# Altium integrated library Altera FLEX 6000.IntLib: 56 symbols (part 3 of 5)
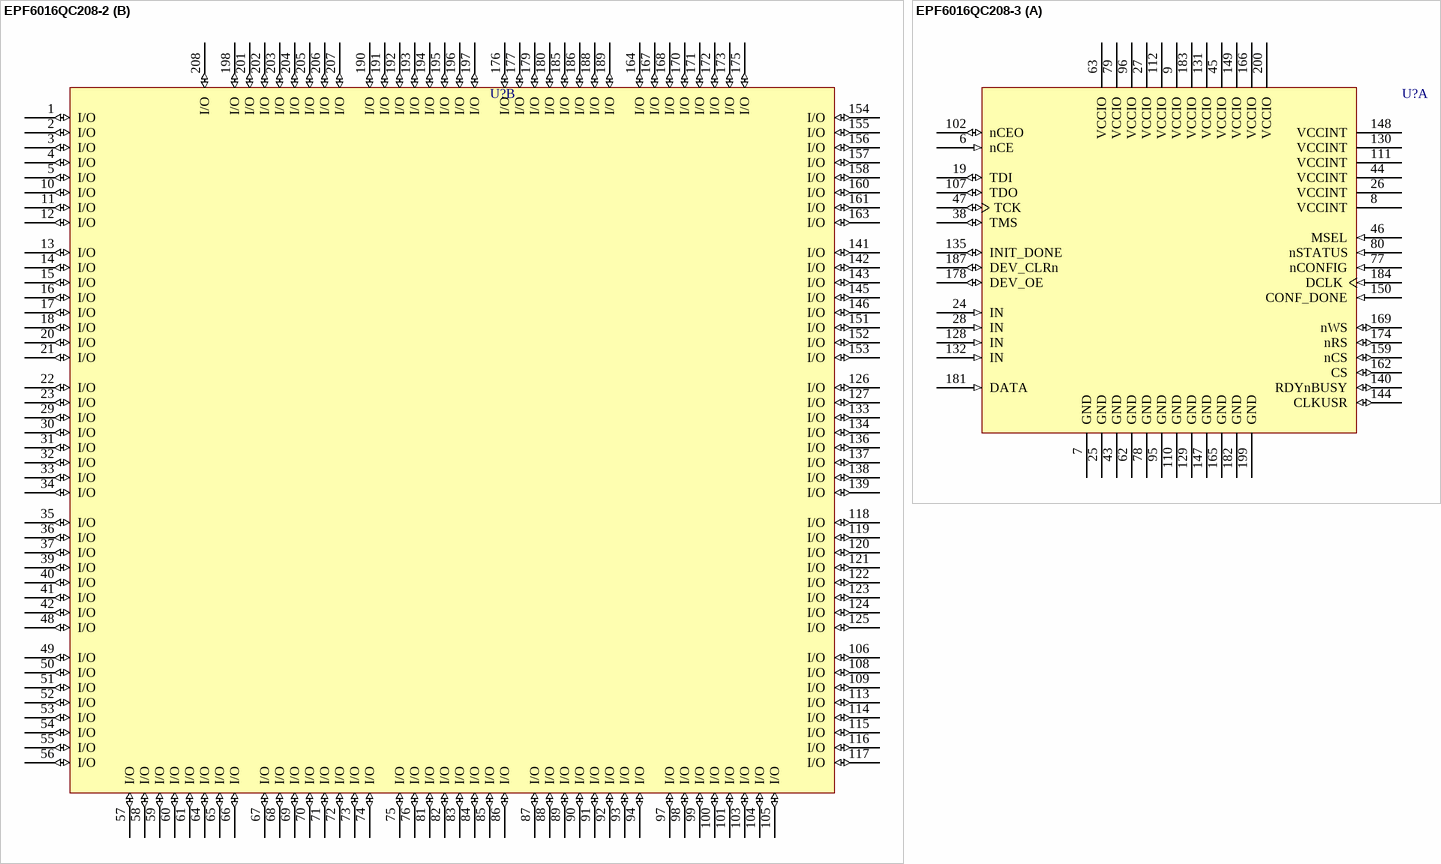
[diagram p42: symbols EPF6016QC208-2 to EPF6016QC208-3]

## EPF6016QC208-2
designator U?
FLEX EPF6016 5.0V PLD, 171 User IO Pins, 208-Pin PQFP, Speed Grade 2, Commercial Grade; Published: 24-Nov-2000; LatestRevisionDate: 13-Apr-2006; LatestRevisionNote: IPC-7351 Footprint Added.; DatasheetVersion: ver4.1, Mar-2001; PackageVersion: ver14.1, Oct-2005; PackageReference: PQFP208; Publisher: Altium Limited; PackageDescription: 208-Pin Plastic Quad Flat Pack (PQFP208); Code_JEDEC: MS-029-FA-1; ComponentLink1Description: Manufacturer Link; ComponentLink1URL: http://www.altera.com/products/devices/flex6k/f6k-index.html; ComponentLink2Description: Datasheet; ComponentLink2URL: http://www.altera.com/literature/ds/dsf6k.pdf
footprint PQFP208_N (Shrink QFP, 208-Leads, Body 28x28mm, Pitch 0.5mm, IPC Medium Density)
footprint PQFP208_L (Shrink QFP, 208-Leads, Body 28x28mm, Pitch 0.5mm, IPC High Density)
footprint PQFP208_M (Shrink QFP, 208-Leads, Body 28x28mm, Pitch 0.5mm, IPC Low Density)
3D model EPF6016-PQFP208 (208-Pin Plastic Quad Flat Pack (PQFP208))
part A pins: 6 nCE (in), 7 GND (power), 8 VCCINT (power), 9 VCCIO (power), 19 TDI (io), 24 IN (in), 25 GND (power), 26 VCCINT (power), 27 VCCIO (power), 28 IN (in), 38 TMS (io), 43 GND (power), 44 VCCINT (power), 45 VCCIO (power), 46 MSEL (in), 47 TCK (io), 62 GND (power), 63 VCCIO (power), 77 nCONFIG (in), 78 GND (power), 79 VCCIO (power), 80 nSTATUS (in), 95 GND (power), 96 VCCIO (power), 102 nCEO (io), 107 TDO (io), 110 GND (power), 111 VCCINT (power), 112 VCCIO (power), 128 IN (in), 129 GND (power), 130 VCCINT (power), 131 VCCIO (power), 132 IN (in), 135 INIT_DONE (io), 140 RDYnBUSY (io), 144 CLKUSR (io), 147 GND (power), 148 VCCINT (power), 149 VCCIO (power), 150 CONF_DONE (in), 159 nCS (io), 162 CS (io), 165 GND (power), 166 VCCIO (power), 169 nWS (io), 174 nRS (io), 178 DEV_OE (io), 181 DATA (in), 182 GND (power), 183 VCCIO (power), 184 DCLK (in), 187 DEV_CLRn (io), 199 GND (power), 200 VCCIO (power)
part B pins: 1 I/O (io), 2 I/O (io), 3 I/O (io), 4 I/O (io), 5 I/O (io), 10 I/O (io), 11 I/O (io), 12 I/O (io), 13 I/O (io), 14 I/O (io), 15 I/O (io), 16 I/O (io), 17 I/O (io), 18 I/O (io), 20 I/O (io), 21 I/O (io), 22 I/O (io), 23 I/O (io), 29 I/O (io), 30 I/O (io), 31 I/O (io), 32 I/O (io), 33 I/O (io), 34 I/O (io), 35 I/O (io), 36 I/O (io), 37 I/O (io), 39 I/O (io), 40 I/O (io), 41 I/O (io), 42 I/O (io), 48 I/O (io), 49 I/O (io), 50 I/O (io), 51 I/O (io), 52 I/O (io), 53 I/O (io), 54 I/O (io), 55 I/O (io), 56 I/O (io), 57 I/O (io), 58 I/O (io), 59 I/O (io), 60 I/O (io), 61 I/O (io), 64 I/O (io), 65 I/O (io), 66 I/O (io), 67 I/O (io), 68 I/O (io), 69 I/O (io), 70 I/O (io), 71 I/O (io), 72 I/O (io), 73 I/O (io), 74 I/O (io), 75 I/O (io), 76 I/O (io), 81 I/O (io), 82 I/O (io), 83 I/O (io), 84 I/O (io), 85 I/O (io), 86 I/O (io), 87 I/O (io), 88 I/O (io), 89 I/O (io), 90 I/O (io), 91 I/O (io), 92 I/O (io), 93 I/O (io), 94 I/O (io), 97 I/O (io), 98 I/O (io), 99 I/O (io), 100 I/O (io), 101 I/O (io), 103 I/O (io), 104 I/O (io), 105 I/O (io), 106 I/O (io), 108 I/O (io), 109 I/O (io), 113 I/O (io), 114 I/O (io), 115 I/O (io), 116 I/O (io), 117 I/O (io), 118 I/O (io), 119 I/O (io), 120 I/O (io), 121 I/O (io), 122 I/O (io), 123 I/O (io), 124 I/O (io), 125 I/O (io), 126 I/O (io), 127 I/O (io), 133 I/O (io), 134 I/O (io), 136 I/O (io), 137 I/O (io), 138 I/O (io), 139 I/O (io), 141 I/O (io), 142 I/O (io), 143 I/O (io), 145 I/O (io), 146 I/O (io), 151 I/O (io), 152 I/O (io), 153 I/O (io), 154 I/O (io), 155 I/O (io), 156 I/O (io), 157 I/O (io), 158 I/O (io), 160 I/O (io), 161 I/O (io), 163 I/O (io), 164 I/O (io), 167 I/O (io), 168 I/O (io), 170 I/O (io), 171 I/O (io), 172 I/O (io), 173 I/O (io), 175 I/O (io), 176 I/O (io), 177 I/O (io), 179 I/O (io), 180 I/O (io), 185 I/O (io), 186 I/O (io), 188 I/O (io), 189 I/O (io), 190 I/O (io), 191 I/O (io), 192 I/O (io), 193 I/O (io), 194 I/O (io), 195 I/O (io), 196 I/O (io), 197 I/O (io), 198 I/O (io), 201 I/O (io), 202 I/O (io), 203 I/O (io), 204 I/O (io), 205 I/O (io), 206 I/O (io), 207 I/O (io), 208 I/O (io)

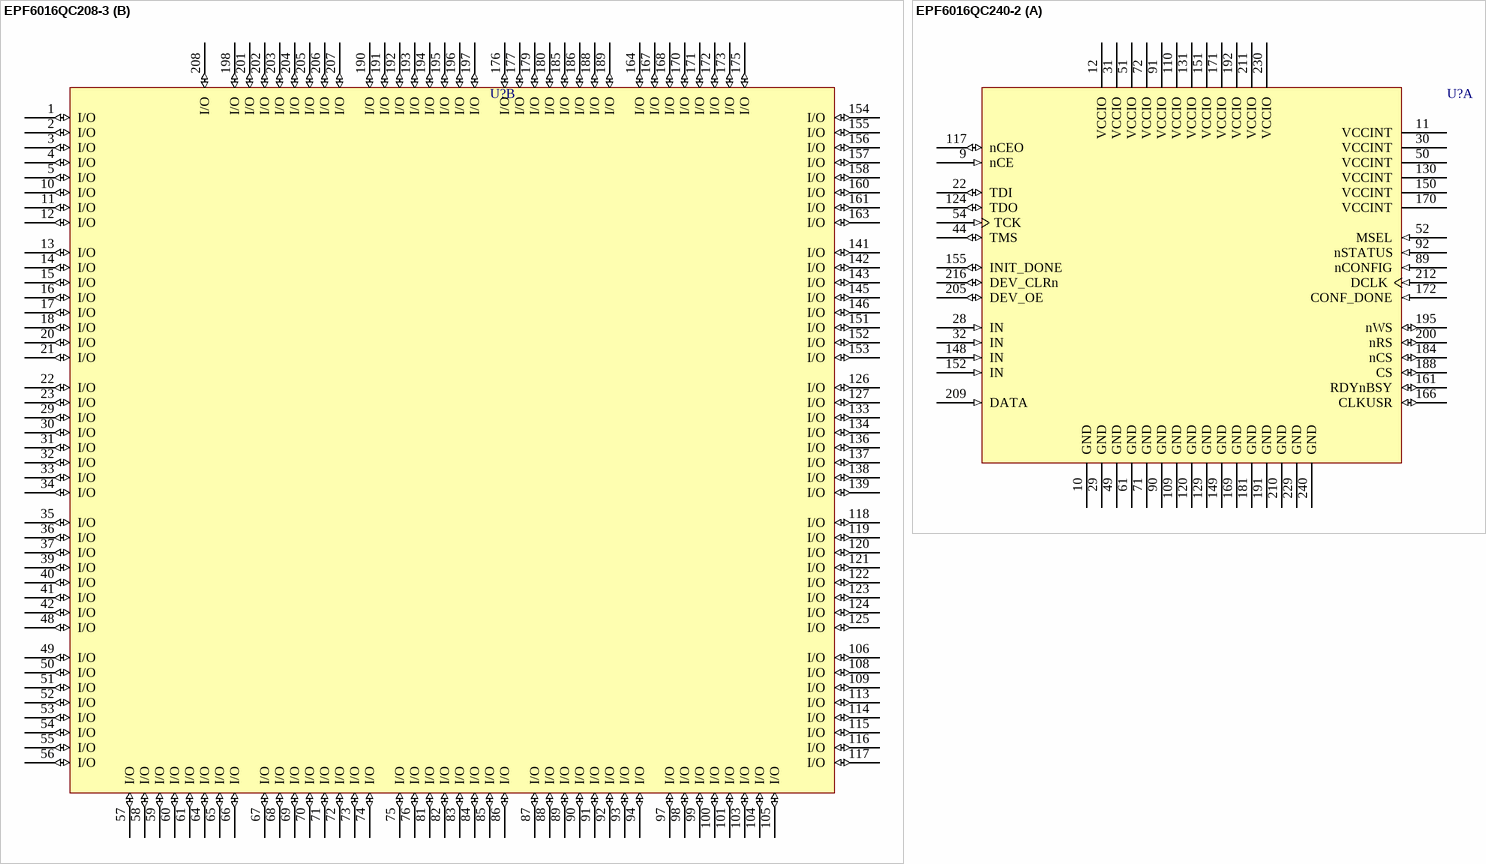
[diagram p19: symbols EPF6016QC208-3 to EPF6016QC240-2]

## EPF6016QC208-3
designator U?
FLEX EPF6016 5.0V PLD, 171 User IO Pins, 208-Pin PQFP, Speed Grade 3, Commercial Grade; Published: 24-Nov-2000; LatestRevisionDate: 13-Apr-2006; LatestRevisionNote: IPC-7351 Footprint Added.; DatasheetVersion: ver4.1, Mar-2001; PackageVersion: ver14.1, Oct-2005; PackageReference: PQFP208; Publisher: Altium Limited; PackageDescription: 208-Pin Plastic Quad Flat Pack (PQFP208); Code_JEDEC: MS-029-FA-1; ComponentLink1Description: Manufacturer Link; ComponentLink1URL: http://www.altera.com/products/devices/flex6k/f6k-index.html; ComponentLink2Description: Datasheet; ComponentLink2URL: http://www.altera.com/literature/ds/dsf6k.pdf
footprint PQFP208_N (Shrink QFP, 208-Leads, Body 28x28mm, Pitch 0.5mm, IPC Medium Density)
footprint PQFP208_L (Shrink QFP, 208-Leads, Body 28x28mm, Pitch 0.5mm, IPC High Density)
footprint PQFP208_M (Shrink QFP, 208-Leads, Body 28x28mm, Pitch 0.5mm, IPC Low Density)
3D model EPF6016-PQFP208 (208-Pin Plastic Quad Flat Pack (PQFP208))
part A pins: 6 nCE (in), 7 GND (power), 8 VCCINT (power), 9 VCCIO (power), 19 TDI (io), 24 IN (in), 25 GND (power), 26 VCCINT (power), 27 VCCIO (power), 28 IN (in), 38 TMS (io), 43 GND (power), 44 VCCINT (power), 45 VCCIO (power), 46 MSEL (in), 47 TCK (io), 62 GND (power), 63 VCCIO (power), 77 nCONFIG (in), 78 GND (power), 79 VCCIO (power), 80 nSTATUS (in), 95 GND (power), 96 VCCIO (power), 102 nCEO (io), 107 TDO (io), 110 GND (power), 111 VCCINT (power), 112 VCCIO (power), 128 IN (in), 129 GND (power), 130 VCCINT (power), 131 VCCIO (power), 132 IN (in), 135 INIT_DONE (io), 140 RDYnBUSY (io), 144 CLKUSR (io), 147 GND (power), 148 VCCINT (power), 149 VCCIO (power), 150 CONF_DONE (in), 159 nCS (io), 162 CS (io), 165 GND (power), 166 VCCIO (power), 169 nWS (io), 174 nRS (io), 178 DEV_OE (io), 181 DATA (in), 182 GND (power), 183 VCCIO (power), 184 DCLK (in), 187 DEV_CLRn (io), 199 GND (power), 200 VCCIO (power)
part B pins: 1 I/O (io), 2 I/O (io), 3 I/O (io), 4 I/O (io), 5 I/O (io), 10 I/O (io), 11 I/O (io), 12 I/O (io), 13 I/O (io), 14 I/O (io), 15 I/O (io), 16 I/O (io), 17 I/O (io), 18 I/O (io), 20 I/O (io), 21 I/O (io), 22 I/O (io), 23 I/O (io), 29 I/O (io), 30 I/O (io), 31 I/O (io), 32 I/O (io), 33 I/O (io), 34 I/O (io), 35 I/O (io), 36 I/O (io), 37 I/O (io), 39 I/O (io), 40 I/O (io), 41 I/O (io), 42 I/O (io), 48 I/O (io), 49 I/O (io), 50 I/O (io), 51 I/O (io), 52 I/O (io), 53 I/O (io), 54 I/O (io), 55 I/O (io), 56 I/O (io), 57 I/O (io), 58 I/O (io), 59 I/O (io), 60 I/O (io), 61 I/O (io), 64 I/O (io), 65 I/O (io), 66 I/O (io), 67 I/O (io), 68 I/O (io), 69 I/O (io), 70 I/O (io), 71 I/O (io), 72 I/O (io), 73 I/O (io), 74 I/O (io), 75 I/O (io), 76 I/O (io), 81 I/O (io), 82 I/O (io), 83 I/O (io), 84 I/O (io), 85 I/O (io), 86 I/O (io), 87 I/O (io), 88 I/O (io), 89 I/O (io), 90 I/O (io), 91 I/O (io), 92 I/O (io), 93 I/O (io), 94 I/O (io), 97 I/O (io), 98 I/O (io), 99 I/O (io), 100 I/O (io), 101 I/O (io), 103 I/O (io), 104 I/O (io), 105 I/O (io), 106 I/O (io), 108 I/O (io), 109 I/O (io), 113 I/O (io), 114 I/O (io), 115 I/O (io), 116 I/O (io), 117 I/O (io), 118 I/O (io), 119 I/O (io), 120 I/O (io), 121 I/O (io), 122 I/O (io), 123 I/O (io), 124 I/O (io), 125 I/O (io), 126 I/O (io), 127 I/O (io), 133 I/O (io), 134 I/O (io), 136 I/O (io), 137 I/O (io), 138 I/O (io), 139 I/O (io), 141 I/O (io), 142 I/O (io), 143 I/O (io), 145 I/O (io), 146 I/O (io), 151 I/O (io), 152 I/O (io), 153 I/O (io), 154 I/O (io), 155 I/O (io), 156 I/O (io), 157 I/O (io), 158 I/O (io), 160 I/O (io), 161 I/O (io), 163 I/O (io), 164 I/O (io), 167 I/O (io), 168 I/O (io), 170 I/O (io), 171 I/O (io), 172 I/O (io), 173 I/O (io), 175 I/O (io), 176 I/O (io), 177 I/O (io), 179 I/O (io), 180 I/O (io), 185 I/O (io), 186 I/O (io), 188 I/O (io), 189 I/O (io), 190 I/O (io), 191 I/O (io), 192 I/O (io), 193 I/O (io), 194 I/O (io), 195 I/O (io), 196 I/O (io), 197 I/O (io), 198 I/O (io), 201 I/O (io), 202 I/O (io), 203 I/O (io), 204 I/O (io), 205 I/O (io), 206 I/O (io), 207 I/O (io), 208 I/O (io)

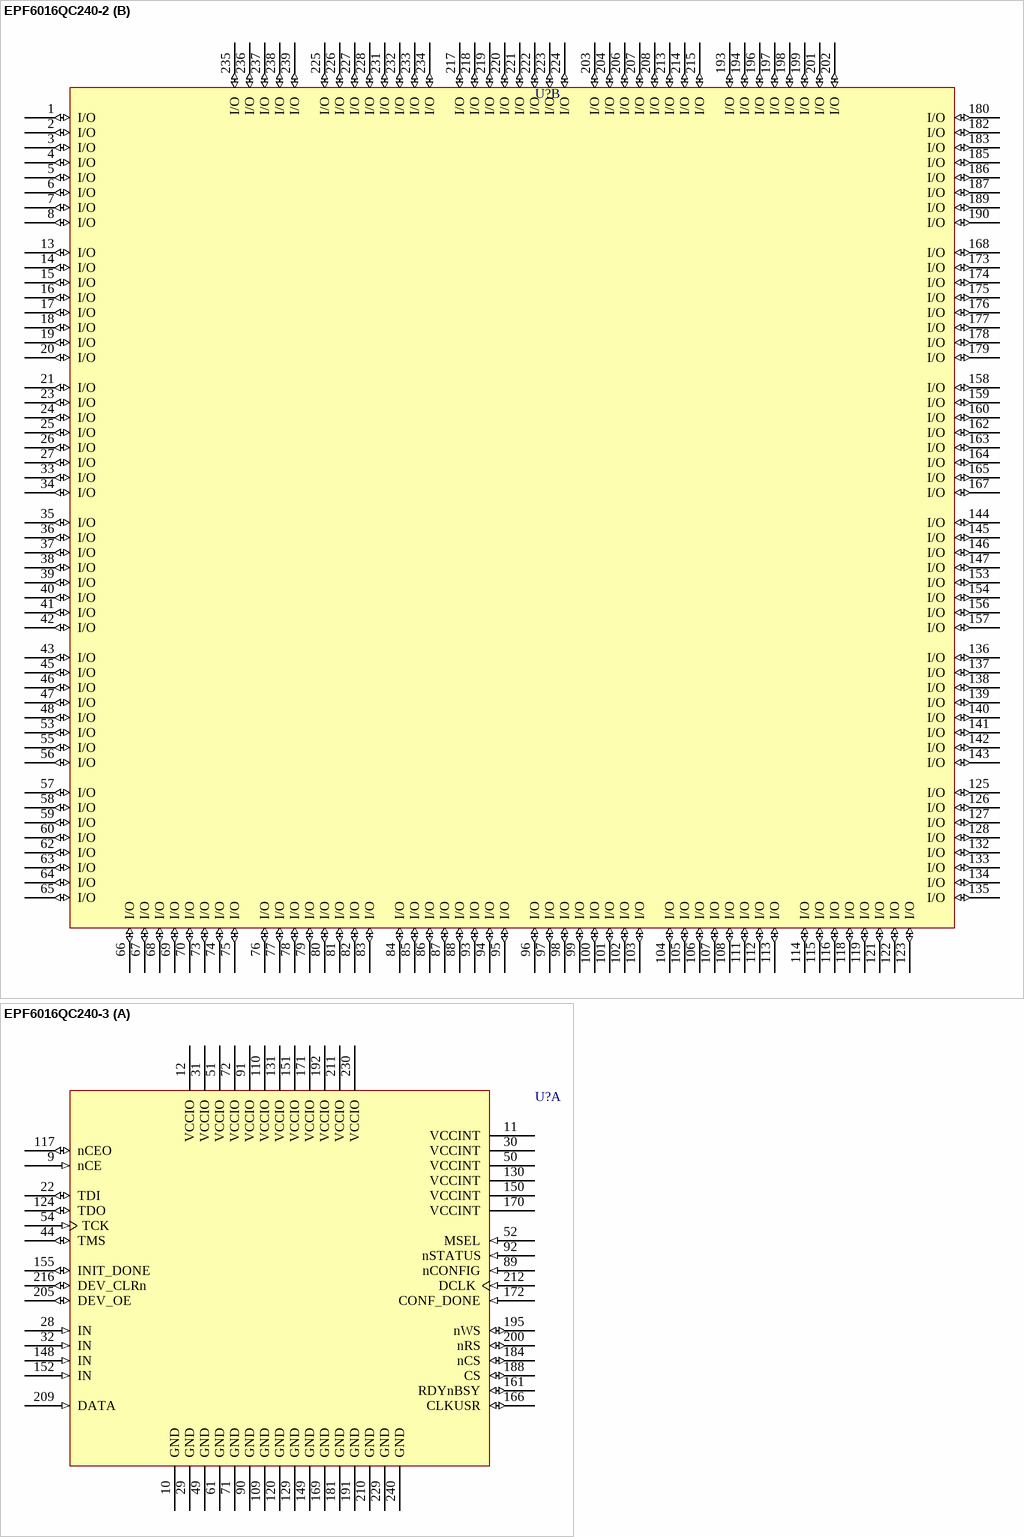
[diagram p20: symbols EPF6016QC240-2 to EPF6016QC240-3]

## EPF6016QC240-2
designator U?
FLEX EPF6016 5.0V PLD, 199 User IO Pins, 240-Pin PQFP, Speed Grade 2, Commercial Grade; Published: 24-Nov-2000; LatestRevisionDate: 13-Apr-2006; LatestRevisionNote: IPC-7351 Footprint Added.; DatasheetVersion: ver4.1, Mar-2001; PackageVersion: ver14.1, Oct-2005; PackageReference: PQFP240; Publisher: Altium Limited; PackageDescription: 240-Pin Plastic Quad Flat Pack (PQFP240); Code_JEDEC: MS-029-GA; ComponentLink1Description: Manufacturer Link; ComponentLink1URL: http://www.altera.com/products/devices/flex6k/f6k-index.html; ComponentLink2Description: Datasheet; ComponentLink2URL: http://www.altera.com/literature/ds/dsf6k.pdf
footprint PQFP240_N (Shrink QFP, 240-Leads, Body 32x32mm, Pitch 0.5mm, IPC Medium Density)
footprint PQFP240_L (Shrink QFP, 240-Leads, Body 32x32mm, Pitch 0.5mm, IPC High Density)
footprint PQFP240_M (Shrink QFP, 240-Leads, Body 32x32mm, Pitch 0.5mm, IPC Low Density)
3D model EPF6016-PQFP240 (240-Pin Plastic Quad Flat Pack (PQFP240))
part A pins: 9 nCE (in), 10 GND (power), 11 VCCINT (power), 12 VCCIO (power), 22 TDI (io), 28 IN (in), 29 GND (power), 30 VCCINT (power), 31 VCCIO (power), 32 IN (in), 44 TMS (io), 49 GND (power), 50 VCCINT (power), 51 VCCIO (power), 52 MSEL (in), 54 TCK (in), 61 GND (power), 71 GND (power), 72 VCCIO (power), 89 nCONFIG (in), 90 GND (power), 91 VCCIO (power), 92 nSTATUS (in), 109 GND (power), 110 VCCIO (power), 117 nCEO (io), 120 GND (power), 124 TDO (io), 129 GND (power), 130 VCCINT (power), 131 VCCIO (power), 148 IN (in), 149 GND (power), 150 VCCINT (power), 151 VCCIO (power), 152 IN (in), 155 INIT_DONE (io), 161 RDYnBSY (io), 166 CLKUSR (io), 169 GND (power), 170 VCCINT (power), 171 VCCIO (power), 172 CONF_DONE (in), 181 GND (power), 184 nCS (io), 188 CS (io), 191 GND (power), 192 VCCIO (power), 195 nWS (io), 200 nRS (io), 205 DEV_OE (io), 209 DATA (in), 210 GND (power), 211 VCCIO (power), 212 DCLK (in), 216 DEV_CLRn (io), 229 GND (power), 230 VCCIO (power), 240 GND (power)
part B pins: 1 I/O (io), 2 I/O (io), 3 I/O (io), 4 I/O (io), 5 I/O (io), 6 I/O (io), 7 I/O (io), 8 I/O (io), 13 I/O (io), 14 I/O (io), 15 I/O (io), 16 I/O (io), 17 I/O (io), 18 I/O (io), 19 I/O (io), 20 I/O (io), 21 I/O (io), 23 I/O (io), 24 I/O (io), 25 I/O (io), 26 I/O (io), 27 I/O (io), 33 I/O (io), 34 I/O (io), 35 I/O (io), 36 I/O (io), 37 I/O (io), 38 I/O (io), 39 I/O (io), 40 I/O (io), 41 I/O (io), 42 I/O (io), 43 I/O (io), 45 I/O (io), 46 I/O (io), 47 I/O (io), 48 I/O (io), 53 I/O (io), 55 I/O (io), 56 I/O (io), 57 I/O (io), 58 I/O (io), 59 I/O (io), 60 I/O (io), 62 I/O (io), 63 I/O (io), 64 I/O (io), 65 I/O (io), 66 I/O (io), 67 I/O (io), 68 I/O (io), 69 I/O (io), 70 I/O (io), 73 I/O (io), 74 I/O (io), 75 I/O (io), 76 I/O (io), 77 I/O (io), 78 I/O (io), 79 I/O (io), 80 I/O (io), 81 I/O (io), 82 I/O (io), 83 I/O (io), 84 I/O (io), 85 I/O (io), 86 I/O (io), 87 I/O (io), 88 I/O (io), 93 I/O (io), 94 I/O (io), 95 I/O (io), 96 I/O (io), 97 I/O (io), 98 I/O (io), 99 I/O (io), 100 I/O (io), 101 I/O (io), 102 I/O (io), 103 I/O (io), 104 I/O (io), 105 I/O (io), 106 I/O (io), 107 I/O (io), 108 I/O (io), 111 I/O (io), 112 I/O (io), 113 I/O (io), 114 I/O (io), 115 I/O (io), 116 I/O (io), 118 I/O (io), 119 I/O (io), 121 I/O (io), 122 I/O (io), 123 I/O (io), 125 I/O (io), 126 I/O (io), 127 I/O (io), 128 I/O (io), 132 I/O (io), 133 I/O (io), 134 I/O (io), 135 I/O (io), 136 I/O (io), 137 I/O (io), 138 I/O (io), 139 I/O (io), 140 I/O (io), 141 I/O (io), 142 I/O (io), 143 I/O (io), 144 I/O (io), 145 I/O (io), 146 I/O (io), 147 I/O (io), 153 I/O (io), 154 I/O (io), 156 I/O (io), 157 I/O (io), 158 I/O (io), 159 I/O (io), 160 I/O (io), 162 I/O (io), 163 I/O (io), 164 I/O (io), 165 I/O (io), 167 I/O (io), 168 I/O (io), 173 I/O (io), 174 I/O (io), 175 I/O (io), 176 I/O (io), 177 I/O (io), 178 I/O (io), 179 I/O (io), 180 I/O (io), 182 I/O (io), 183 I/O (io), 185 I/O (io), 186 I/O (io), 187 I/O (io), 189 I/O (io), 190 I/O (io), 193 I/O (io), 194 I/O (io), 196 I/O (io), 197 I/O (io), 198 I/O (io), 199 I/O (io), 201 I/O (io), 202 I/O (io), 203 I/O (io), 204 I/O (io), 206 I/O (io), 207 I/O (io), 208 I/O (io), 213 I/O (io), 214 I/O (io), 215 I/O (io), 217 I/O (io), 218 I/O (io), 219 I/O (io), 220 I/O (io), 221 I/O (io), 222 I/O (io), 223 I/O (io), 224 I/O (io), 225 I/O (io), 226 I/O (io), 227 I/O (io), 228 I/O (io), 231 I/O (io), 232 I/O (io), 233 I/O (io), 234 I/O (io), 235 I/O (io), 236 I/O (io), 237 I/O (io), 238 I/O (io), 239 I/O (io)

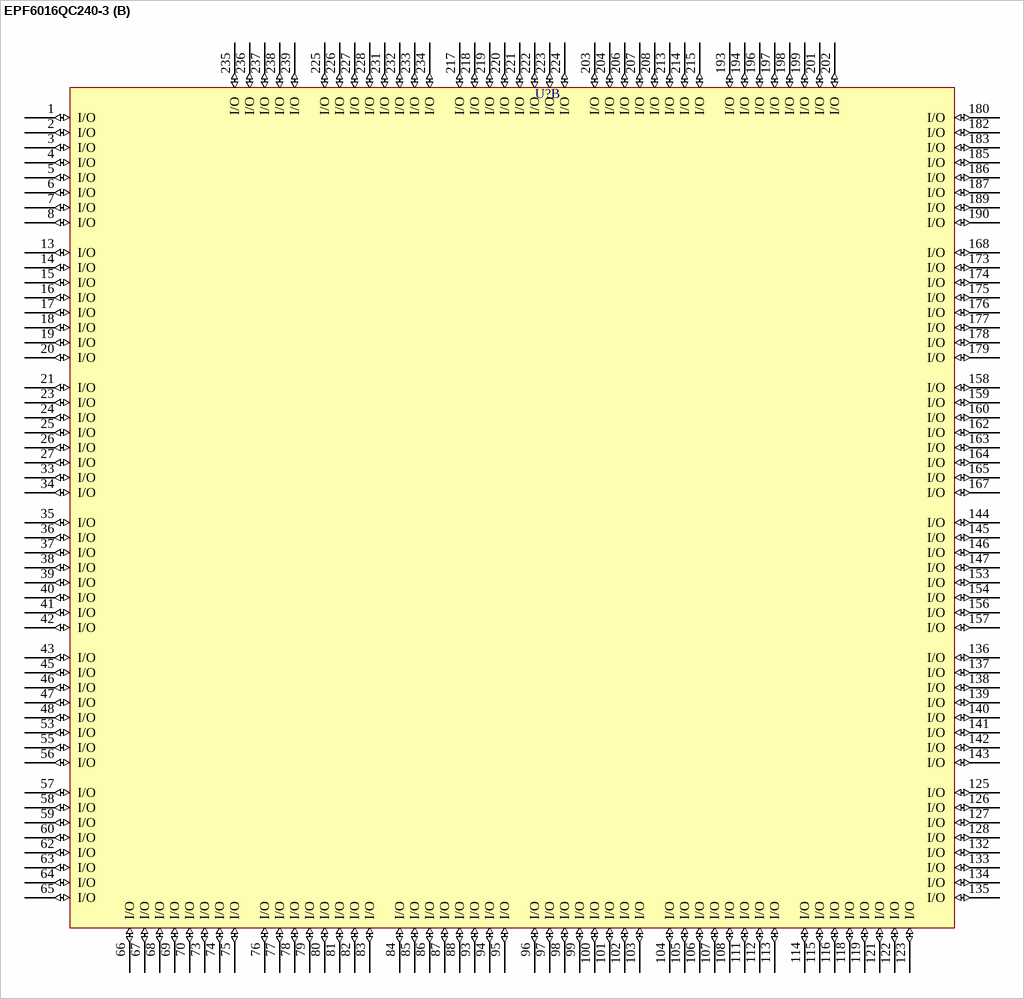
[diagram p21: symbol EPF6016QC240-3]

## EPF6016QC240-3
designator U?
FLEX EPF6016 5.0V PLD, 199 User IO Pins, 240-Pin PQFP, Speed Grade 3, Commercial Grade; Published: 24-Nov-2000; LatestRevisionDate: 13-Apr-2006; LatestRevisionNote: IPC-7351 Footprint Added.; DatasheetVersion: ver4.1, Mar-2001; PackageVersion: ver14.1, Oct-2005; PackageReference: PQFP240; Publisher: Altium Limited; PackageDescription: 240-Pin Plastic Quad Flat Pack (PQFP240); Code_JEDEC: MS-029-GA; ComponentLink1Description: Manufacturer Link; ComponentLink1URL: http://www.altera.com/products/devices/flex6k/f6k-index.html; ComponentLink2Description: Datasheet; ComponentLink2URL: http://www.altera.com/literature/ds/dsf6k.pdf
footprint PQFP240_N (Shrink QFP, 240-Leads, Body 32x32mm, Pitch 0.5mm, IPC Medium Density)
footprint PQFP240_L (Shrink QFP, 240-Leads, Body 32x32mm, Pitch 0.5mm, IPC High Density)
footprint PQFP240_M (Shrink QFP, 240-Leads, Body 32x32mm, Pitch 0.5mm, IPC Low Density)
3D model EPF6016-PQFP240 (240-Pin Plastic Quad Flat Pack (PQFP240))
part A pins: 9 nCE (in), 10 GND (power), 11 VCCINT (power), 12 VCCIO (power), 22 TDI (io), 28 IN (in), 29 GND (power), 30 VCCINT (power), 31 VCCIO (power), 32 IN (in), 44 TMS (io), 49 GND (power), 50 VCCINT (power), 51 VCCIO (power), 52 MSEL (in), 54 TCK (in), 61 GND (power), 71 GND (power), 72 VCCIO (power), 89 nCONFIG (in), 90 GND (power), 91 VCCIO (power), 92 nSTATUS (in), 109 GND (power), 110 VCCIO (power), 117 nCEO (io), 120 GND (power), 124 TDO (io), 129 GND (power), 130 VCCINT (power), 131 VCCIO (power), 148 IN (in), 149 GND (power), 150 VCCINT (power), 151 VCCIO (power), 152 IN (in), 155 INIT_DONE (io), 161 RDYnBSY (io), 166 CLKUSR (io), 169 GND (power), 170 VCCINT (power), 171 VCCIO (power), 172 CONF_DONE (in), 181 GND (power), 184 nCS (io), 188 CS (io), 191 GND (power), 192 VCCIO (power), 195 nWS (io), 200 nRS (io), 205 DEV_OE (io), 209 DATA (in), 210 GND (power), 211 VCCIO (power), 212 DCLK (in), 216 DEV_CLRn (io), 229 GND (power), 230 VCCIO (power), 240 GND (power)
part B pins: 1 I/O (io), 2 I/O (io), 3 I/O (io), 4 I/O (io), 5 I/O (io), 6 I/O (io), 7 I/O (io), 8 I/O (io), 13 I/O (io), 14 I/O (io), 15 I/O (io), 16 I/O (io), 17 I/O (io), 18 I/O (io), 19 I/O (io), 20 I/O (io), 21 I/O (io), 23 I/O (io), 24 I/O (io), 25 I/O (io), 26 I/O (io), 27 I/O (io), 33 I/O (io), 34 I/O (io), 35 I/O (io), 36 I/O (io), 37 I/O (io), 38 I/O (io), 39 I/O (io), 40 I/O (io), 41 I/O (io), 42 I/O (io), 43 I/O (io), 45 I/O (io), 46 I/O (io), 47 I/O (io), 48 I/O (io), 53 I/O (io), 55 I/O (io), 56 I/O (io), 57 I/O (io), 58 I/O (io), 59 I/O (io), 60 I/O (io), 62 I/O (io), 63 I/O (io), 64 I/O (io), 65 I/O (io), 66 I/O (io), 67 I/O (io), 68 I/O (io), 69 I/O (io), 70 I/O (io), 73 I/O (io), 74 I/O (io), 75 I/O (io), 76 I/O (io), 77 I/O (io), 78 I/O (io), 79 I/O (io), 80 I/O (io), 81 I/O (io), 82 I/O (io), 83 I/O (io), 84 I/O (io), 85 I/O (io), 86 I/O (io), 87 I/O (io), 88 I/O (io), 93 I/O (io), 94 I/O (io), 95 I/O (io), 96 I/O (io), 97 I/O (io), 98 I/O (io), 99 I/O (io), 100 I/O (io), 101 I/O (io), 102 I/O (io), 103 I/O (io), 104 I/O (io), 105 I/O (io), 106 I/O (io), 107 I/O (io), 108 I/O (io), 111 I/O (io), 112 I/O (io), 113 I/O (io), 114 I/O (io), 115 I/O (io), 116 I/O (io), 118 I/O (io), 119 I/O (io), 121 I/O (io), 122 I/O (io), 123 I/O (io), 125 I/O (io), 126 I/O (io), 127 I/O (io), 128 I/O (io), 132 I/O (io), 133 I/O (io), 134 I/O (io), 135 I/O (io), 136 I/O (io), 137 I/O (io), 138 I/O (io), 139 I/O (io), 140 I/O (io), 141 I/O (io), 142 I/O (io), 143 I/O (io), 144 I/O (io), 145 I/O (io), 146 I/O (io), 147 I/O (io), 153 I/O (io), 154 I/O (io), 156 I/O (io), 157 I/O (io), 158 I/O (io), 159 I/O (io), 160 I/O (io), 162 I/O (io), 163 I/O (io), 164 I/O (io), 165 I/O (io), 167 I/O (io), 168 I/O (io), 173 I/O (io), 174 I/O (io), 175 I/O (io), 176 I/O (io), 177 I/O (io), 178 I/O (io), 179 I/O (io), 180 I/O (io), 182 I/O (io), 183 I/O (io), 185 I/O (io), 186 I/O (io), 187 I/O (io), 189 I/O (io), 190 I/O (io), 193 I/O (io), 194 I/O (io), 196 I/O (io), 197 I/O (io), 198 I/O (io), 199 I/O (io), 201 I/O (io), 202 I/O (io), 203 I/O (io), 204 I/O (io), 206 I/O (io), 207 I/O (io), 208 I/O (io), 213 I/O (io), 214 I/O (io), 215 I/O (io), 217 I/O (io), 218 I/O (io), 219 I/O (io), 220 I/O (io), 221 I/O (io), 222 I/O (io), 223 I/O (io), 224 I/O (io), 225 I/O (io), 226 I/O (io), 227 I/O (io), 228 I/O (io), 231 I/O (io), 232 I/O (io), 233 I/O (io), 234 I/O (io), 235 I/O (io), 236 I/O (io), 237 I/O (io), 238 I/O (io), 239 I/O (io)

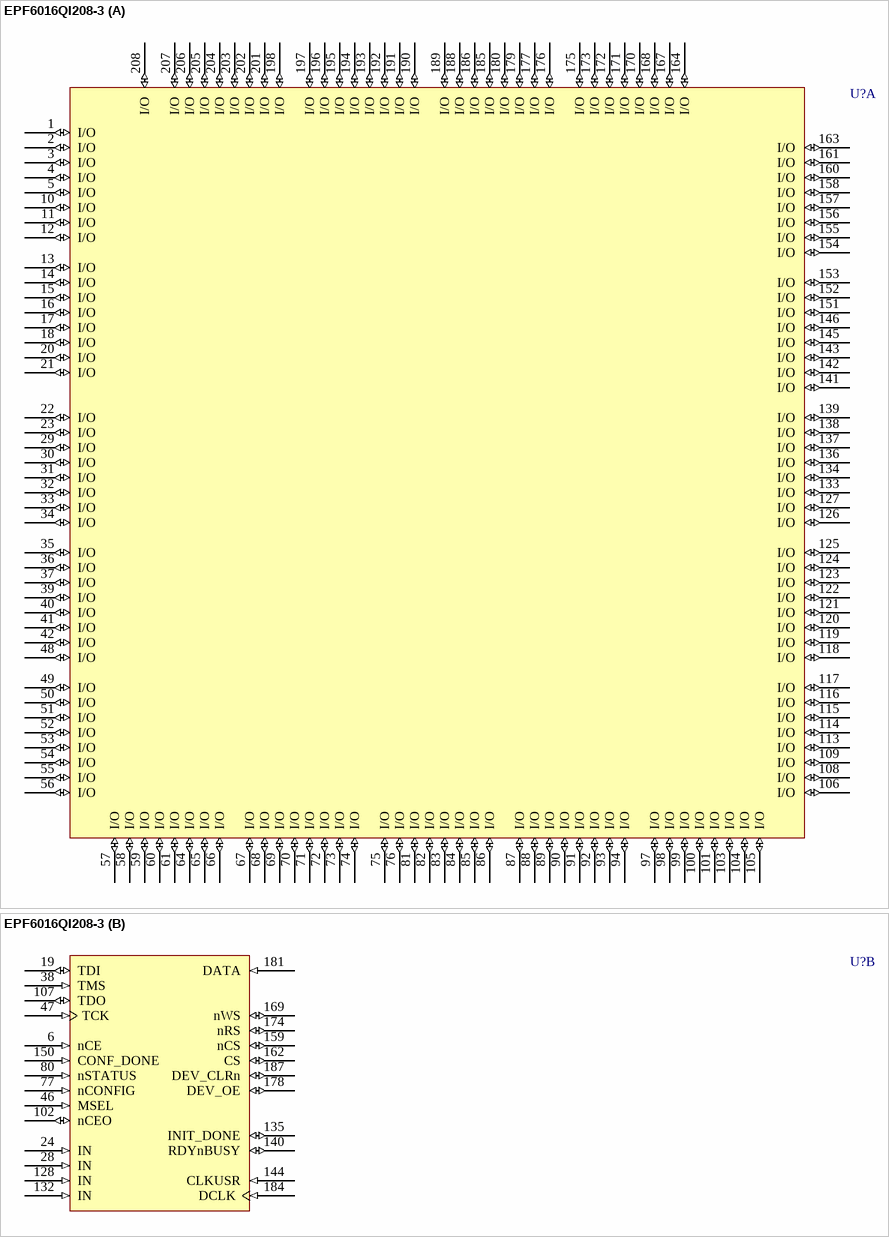
[diagram p22: symbol EPF6016QI208-3]

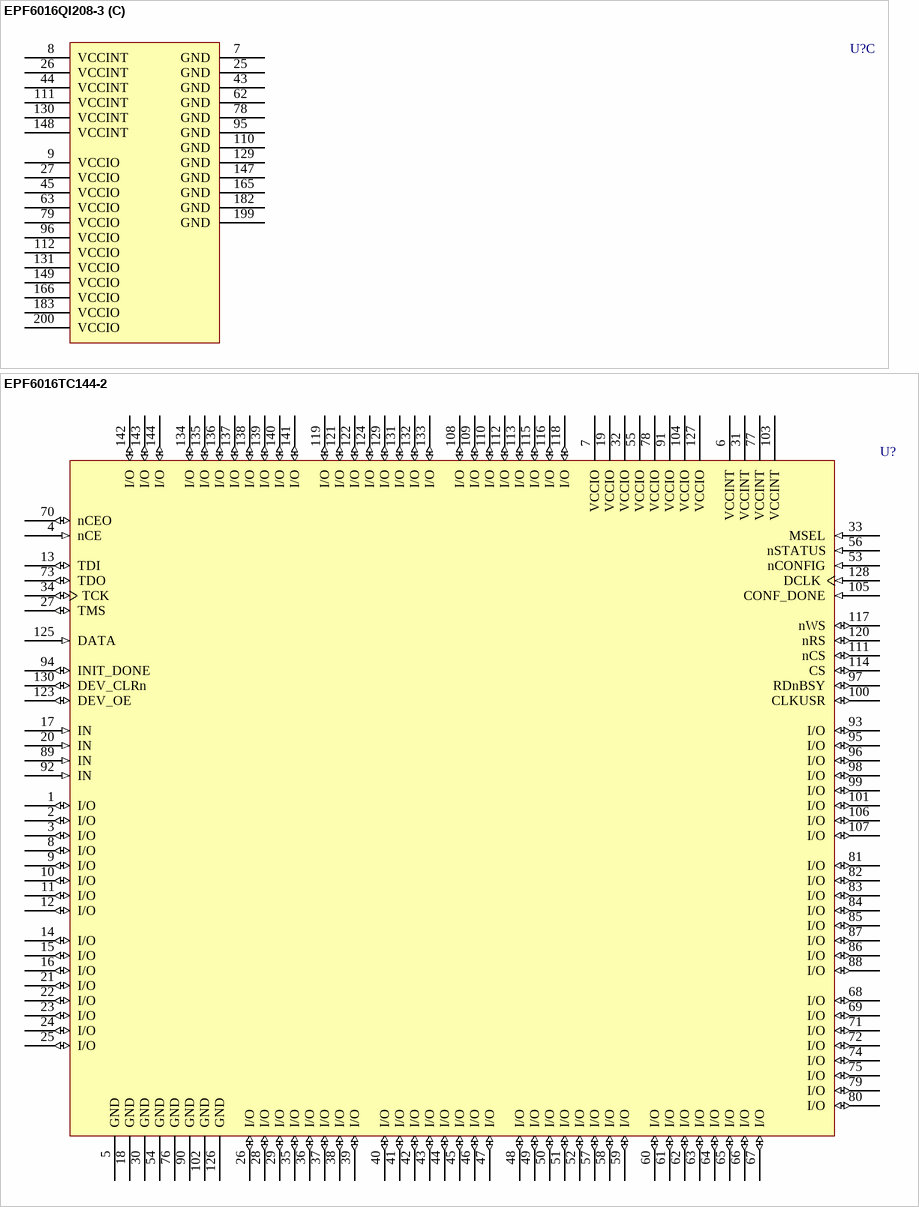
[diagram p23: symbols EPF6016QI208-3 to EPF6016TC144-2]

## EPF6016QI208-3
designator U?
FLEX EPF6016 5.0V PLD, 171 User IO Pins, 208-Pin PQFP, Speed Grade 3, Industrial Grade; Published: 17-Jul-2002; LatestRevisionDate: 13-Apr-2006; LatestRevisionNote: IPC-7351 Footprint Added.; DatasheetVersion: ver4.1, Mar-2001; PackageVersion: ver14.1, Oct-2005; PackageReference: PQFP208; Publisher: Altium Limited; PackageDescription: 208-Pin Plastic Quad Flat Pack (PQFP208); Code_JEDEC: MS-029-FA-1; ComponentLink1Description: Manufacturer Link; ComponentLink1URL: http://www.altera.com/products/devices/flex6k/f6k-index.html; ComponentLink2Description: Datasheet; ComponentLink2URL: http://www.altera.com/literature/ds/dsf6k.pdf
footprint PQFP208_N (Shrink QFP, 208-Leads, Body 28x28mm, Pitch 0.5mm, IPC Medium Density)
footprint PQFP208_L (Shrink QFP, 208-Leads, Body 28x28mm, Pitch 0.5mm, IPC High Density)
footprint PQFP208_M (Shrink QFP, 208-Leads, Body 28x28mm, Pitch 0.5mm, IPC Low Density)
3D model EPF6016-PQFP208 (208-Pin Plastic Quad Flat Pack (PQFP208))
part A pins: 1 I/O (io), 2 I/O (io), 3 I/O (io), 4 I/O (io), 5 I/O (io), 10 I/O (io), 11 I/O (io), 12 I/O (io), 13 I/O (io), 14 I/O (io), 15 I/O (io), 16 I/O (io), 17 I/O (io), 18 I/O (io), 20 I/O (io), 21 I/O (io), 22 I/O (io), 23 I/O (io), 29 I/O (io), 30 I/O (io), 31 I/O (io), 32 I/O (io), 33 I/O (io), 34 I/O (io), 35 I/O (io), 36 I/O (io), 37 I/O (io), 39 I/O (io), 40 I/O (io), 41 I/O (io), 42 I/O (io), 48 I/O (io), 49 I/O (io), 50 I/O (io), 51 I/O (io), 52 I/O (io), 53 I/O (io), 54 I/O (io), 55 I/O (io), 56 I/O (io), 57 I/O (io), 58 I/O (io), 59 I/O (io), 60 I/O (io), 61 I/O (io), 64 I/O (io), 65 I/O (io), 66 I/O (io), 67 I/O (io), 68 I/O (io), 69 I/O (io), 70 I/O (io), 71 I/O (io), 72 I/O (io), 73 I/O (io), 74 I/O (io), 75 I/O (io), 76 I/O (io), 81 I/O (io), 82 I/O (io), 83 I/O (io), 84 I/O (io), 85 I/O (io), 86 I/O (io), 87 I/O (io), 88 I/O (io), 89 I/O (io), 90 I/O (io), 91 I/O (io), 92 I/O (io), 93 I/O (io), 94 I/O (io), 97 I/O (io), 98 I/O (io), 99 I/O (io), 100 I/O (io), 101 I/O (io), 103 I/O (io), 104 I/O (io), 105 I/O (io), 106 I/O (io), 108 I/O (io), 109 I/O (io), 113 I/O (io), 114 I/O (io), 115 I/O (io), 116 I/O (io), 117 I/O (io), 118 I/O (io), 119 I/O (io), 120 I/O (io), 121 I/O (io), 122 I/O (io), 123 I/O (io), 124 I/O (io), 125 I/O (io), 126 I/O (io), 127 I/O (io), 133 I/O (io), 134 I/O (io), 136 I/O (io), 137 I/O (io), 138 I/O (io), 139 I/O (io), 141 I/O (io), 142 I/O (io), 143 I/O (io), 145 I/O (io), 146 I/O (io), 151 I/O (io), 152 I/O (io), 153 I/O (io), 154 I/O (io), 155 I/O (io), 156 I/O (io), 157 I/O (io), 158 I/O (io), 160 I/O (io), 161 I/O (io), 163 I/O (io), 164 I/O (io), 167 I/O (io), 168 I/O (io), 170 I/O (io), 171 I/O (io), 172 I/O (io), 173 I/O (io), 175 I/O (io), 176 I/O (io), 177 I/O (io), 179 I/O (io), 180 I/O (io), 185 I/O (io), 186 I/O (io), 188 I/O (io), 189 I/O (io), 190 I/O (io), 191 I/O (io), 192 I/O (io), 193 I/O (io), 194 I/O (io), 195 I/O (io), 196 I/O (io), 197 I/O (io), 198 I/O (io), 201 I/O (io), 202 I/O (io), 203 I/O (io), 204 I/O (io), 205 I/O (io), 206 I/O (io), 207 I/O (io), 208 I/O (io)
part B pins: 6 nCE (in), 19 TDI (io), 24 IN (in), 28 IN (in), 38 TMS (in), 46 MSEL (in), 47 TCK (in), 77 nCONFIG (in), 80 nSTATUS (in), 102 nCEO (io), 107 TDO (io), 128 IN (in), 132 IN (in), 135 INIT_DONE (io), 140 RDYnBUSY (io), 144 CLKUSR (in), 150 CONF_DONE (in), 159 nCS (io), 162 CS (io), 169 nWS (io), 174 nRS (io), 178 DEV_OE (io), 181 DATA (in), 184 DCLK (in), 187 DEV_CLRn (io)
part C pins: 7 GND (power), 8 VCCINT (power), 9 VCCIO (power), 25 GND (power), 26 VCCINT (power), 27 VCCIO (power), 43 GND (power), 44 VCCINT (power), 45 VCCIO (power), 62 GND (power), 63 VCCIO (power), 78 GND (power), 79 VCCIO (power), 95 GND (power), 96 VCCIO (power), 110 GND (power), 111 VCCINT (power), 112 VCCIO (power), 129 GND (power), 130 VCCINT (power), 131 VCCIO (power), 147 GND (power), 148 VCCINT (power), 149 VCCIO (power), 165 GND (power), 166 VCCIO (power), 182 GND (power), 183 VCCIO (power), 199 GND (power), 200 VCCIO (power)

## EPF6016TC144-2
designator U?
FLEX EPF6016 5.0V PLD, 117 User IO Pins, 144-Pin TQFP, Speed Grade 2, Commercial Grade; Published: 24-Nov-2000; LatestRevisionDate: 13-Apr-2006; LatestRevisionNote: IPC-7351 Footprint Added.; DatasheetVersion: ver4.1, Mar-2001; PackageVersion: ver14.1, Oct-2005; PackageReference: TQFP144; Publisher: Altium Limited; PackageDescription: 144-Pin Plastic Thin Quad Flat Pack (TQFP144); Code_JEDEC: MS-026-BFB; ComponentLink1Description: Manufacturer Link; ComponentLink1URL: http://www.altera.com/products/devices/flex6k/f6k-index.html; ComponentLink2Description: Datasheet; ComponentLink2URL: http://www.altera.com/literature/ds/dsf6k.pdf
footprint TQFP144_N (Thin QFP, 144-Leads, Body 20x20mm, Pitch 0.5mm, IPC Medium Density)
footprint TQFP144_L (Thin QFP, 144-Leads, Body 20x20mm, Pitch 0.5mm, IPC High Density)
footprint TQFP144_M (Thin QFP, 144-Leads, Body 20x20mm, Pitch 0.5mm, IPC Low Density)
3D model EPF6016-TQFP144 (144-Pin Plastic Thin Quad Flat Pack (TQFP144))
pins: 1 I/O (io), 2 I/O (io), 3 I/O (io), 4 nCE (in), 5 GND (power), 6 VCCINT (power), 7 VCCIO (power), 8 I/O (io), 9 I/O (io), 10 I/O (io), 11 I/O (io), 12 I/O (io), 13 TDI (io), 14 I/O (io), 15 I/O (io), 16 I/O (io), 17 IN (in), 18 GND (power), 19 VCCIO (power), 20 IN (in), 21 I/O (io), 22 I/O (io), 23 I/O (io), 24 I/O (io), 25 I/O (io), 26 I/O (io), 27 TMS (io), 28 I/O (io), 29 I/O (io), 30 GND (power), 31 VCCINT (power), 32 VCCIO (power), 33 MSEL (in), 34 TCK (io), 35 I/O (io), 36 I/O (io), 37 I/O (io), 38 I/O (io), 39 I/O (io), 40 I/O (io), 41 I/O (io), 42 I/O (io), 43 I/O (io), 44 I/O (io), 45 I/O (io), 46 I/O (io), 47 I/O (io), 48 I/O (io), 49 I/O (io), 50 I/O (io), 51 I/O (io), 52 I/O (io), 53 nCONFIG (in), 54 GND (power), 55 VCCIO (power), 56 nSTATUS (in), 57 I/O (io), 58 I/O (io), 59 I/O (io), 60 I/O (io), 61 I/O (io), 62 I/O (io), 63 I/O (io), 64 I/O (io), 65 I/O (io), 66 I/O (io), 67 I/O (io), 68 I/O (io), 69 I/O (io), 70 nCEO (io), 71 I/O (io), 72 I/O (io), 73 TDO (io), 74 I/O (io), 75 I/O (io), 76 GND (power), 77 VCCINT (power), 78 VCCIO (power), 79 I/O (io), 80 I/O (io), 81 I/O (io), 82 I/O (io), 83 I/O (io), 84 I/O (io), 85 I/O (io), 86 I/O (io), 87 I/O (io), 88 I/O (io), 89 IN (in), 90 GND (power), 91 VCCIO (power), 92 IN (in), 93 I/O (io), 94 INIT_DONE (io), 95 I/O (io), 96 I/O (io), 97 RDnBSY (io), 98 I/O (io), 99 I/O (io), 100 CLKUSR (io), 101 I/O (io), 102 GND (power), 103 VCCINT (power), 104 VCCIO (power), 105 CONF_DONE (in), 106 I/O (io), 107 I/O (io), 108 I/O (io), 109 I/O (io), 110 I/O (io), 111 nCS (io), 112 I/O (io), 113 I/O (io), 114 CS (io), 115 I/O (io), 116 I/O (io), 117 nWS (io), 118 I/O (io), 119 I/O (io), 120 nRS (io), 121 I/O (io), 122 I/O (io), 123 DEV_OE (io), 124 I/O (io), 125 DATA (in), 126 GND (power), 127 VCCIO (power), 128 DCLK (in), 129 I/O (io), 130 DEV_CLRn (io), 131 I/O (io), 132 I/O (io), 133 I/O (io), 134 I/O (io), 135 I/O (io), 136 I/O (io), 137 I/O (io), 138 I/O (io), 139 I/O (io), 140 I/O (io), 141 I/O (io), 142 I/O (io), 143 I/O (io), 144 I/O (io)

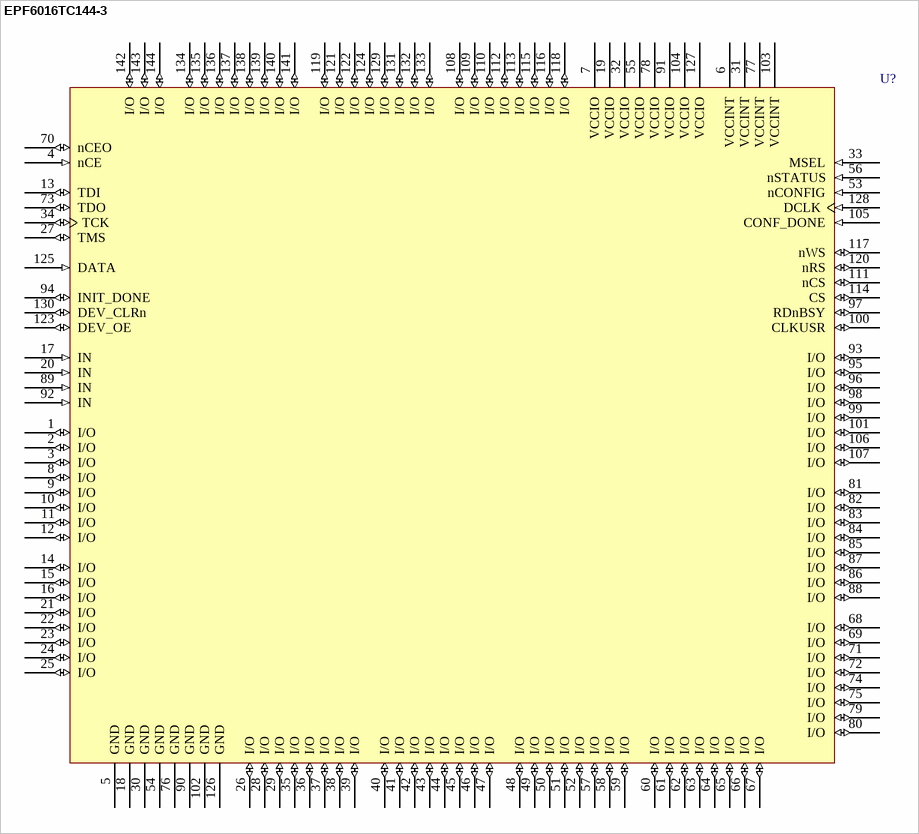
[diagram p24: symbol EPF6016TC144-3]

## EPF6016TC144-3
designator U?
FLEX EPF6016 5.0V PLD, 117 User IO Pins, 144-Pin TQFP, Speed Grade 3, Commercial Grade; Published: 24-Nov-2000; LatestRevisionDate: 13-Apr-2006; LatestRevisionNote: IPC-7351 Footprint Added.; DatasheetVersion: ver4.1, Mar-2001; PackageVersion: ver14.1, Oct-2005; PackageReference: TQFP144; Publisher: Altium Limited; PackageDescription: 144-Pin Plastic Thin Quad Flat Pack (TQFP144); Code_JEDEC: MS-026-BFB; ComponentLink1Description: Manufacturer Link; ComponentLink1URL: http://www.altera.com/products/devices/flex6k/f6k-index.html; ComponentLink2Description: Datasheet; ComponentLink2URL: http://www.altera.com/literature/ds/dsf6k.pdf
footprint TQFP144_N (Thin QFP, 144-Leads, Body 20x20mm, Pitch 0.5mm, IPC Medium Density)
footprint TQFP144_L (Thin QFP, 144-Leads, Body 20x20mm, Pitch 0.5mm, IPC High Density)
footprint TQFP144_M (Thin QFP, 144-Leads, Body 20x20mm, Pitch 0.5mm, IPC Low Density)
3D model EPF6016-TQFP144 (144-Pin Plastic Thin Quad Flat Pack (TQFP144))
pins: 1 I/O (io), 2 I/O (io), 3 I/O (io), 4 nCE (in), 5 GND (power), 6 VCCINT (power), 7 VCCIO (power), 8 I/O (io), 9 I/O (io), 10 I/O (io), 11 I/O (io), 12 I/O (io), 13 TDI (io), 14 I/O (io), 15 I/O (io), 16 I/O (io), 17 IN (in), 18 GND (power), 19 VCCIO (power), 20 IN (in), 21 I/O (io), 22 I/O (io), 23 I/O (io), 24 I/O (io), 25 I/O (io), 26 I/O (io), 27 TMS (io), 28 I/O (io), 29 I/O (io), 30 GND (power), 31 VCCINT (power), 32 VCCIO (power), 33 MSEL (in), 34 TCK (io), 35 I/O (io), 36 I/O (io), 37 I/O (io), 38 I/O (io), 39 I/O (io), 40 I/O (io), 41 I/O (io), 42 I/O (io), 43 I/O (io), 44 I/O (io), 45 I/O (io), 46 I/O (io), 47 I/O (io), 48 I/O (io), 49 I/O (io), 50 I/O (io), 51 I/O (io), 52 I/O (io), 53 nCONFIG (in), 54 GND (power), 55 VCCIO (power), 56 nSTATUS (in), 57 I/O (io), 58 I/O (io), 59 I/O (io), 60 I/O (io), 61 I/O (io), 62 I/O (io), 63 I/O (io), 64 I/O (io), 65 I/O (io), 66 I/O (io), 67 I/O (io), 68 I/O (io), 69 I/O (io), 70 nCEO (io), 71 I/O (io), 72 I/O (io), 73 TDO (io), 74 I/O (io), 75 I/O (io), 76 GND (power), 77 VCCINT (power), 78 VCCIO (power), 79 I/O (io), 80 I/O (io), 81 I/O (io), 82 I/O (io), 83 I/O (io), 84 I/O (io), 85 I/O (io), 86 I/O (io), 87 I/O (io), 88 I/O (io), 89 IN (in), 90 GND (power), 91 VCCIO (power), 92 IN (in), 93 I/O (io), 94 INIT_DONE (io), 95 I/O (io), 96 I/O (io), 97 RDnBSY (io), 98 I/O (io), 99 I/O (io), 100 CLKUSR (io), 101 I/O (io), 102 GND (power), 103 VCCINT (power), 104 VCCIO (power), 105 CONF_DONE (in), 106 I/O (io), 107 I/O (io), 108 I/O (io), 109 I/O (io), 110 I/O (io), 111 nCS (io), 112 I/O (io), 113 I/O (io), 114 CS (io), 115 I/O (io), 116 I/O (io), 117 nWS (io), 118 I/O (io), 119 I/O (io), 120 nRS (io), 121 I/O (io), 122 I/O (io), 123 DEV_OE (io), 124 I/O (io), 125 DATA (in), 126 GND (power), 127 VCCIO (power), 128 DCLK (in), 129 I/O (io), 130 DEV_CLRn (io), 131 I/O (io), 132 I/O (io), 133 I/O (io), 134 I/O (io), 135 I/O (io), 136 I/O (io), 137 I/O (io), 138 I/O (io), 139 I/O (io), 140 I/O (io), 141 I/O (io), 142 I/O (io), 143 I/O (io), 144 I/O (io)

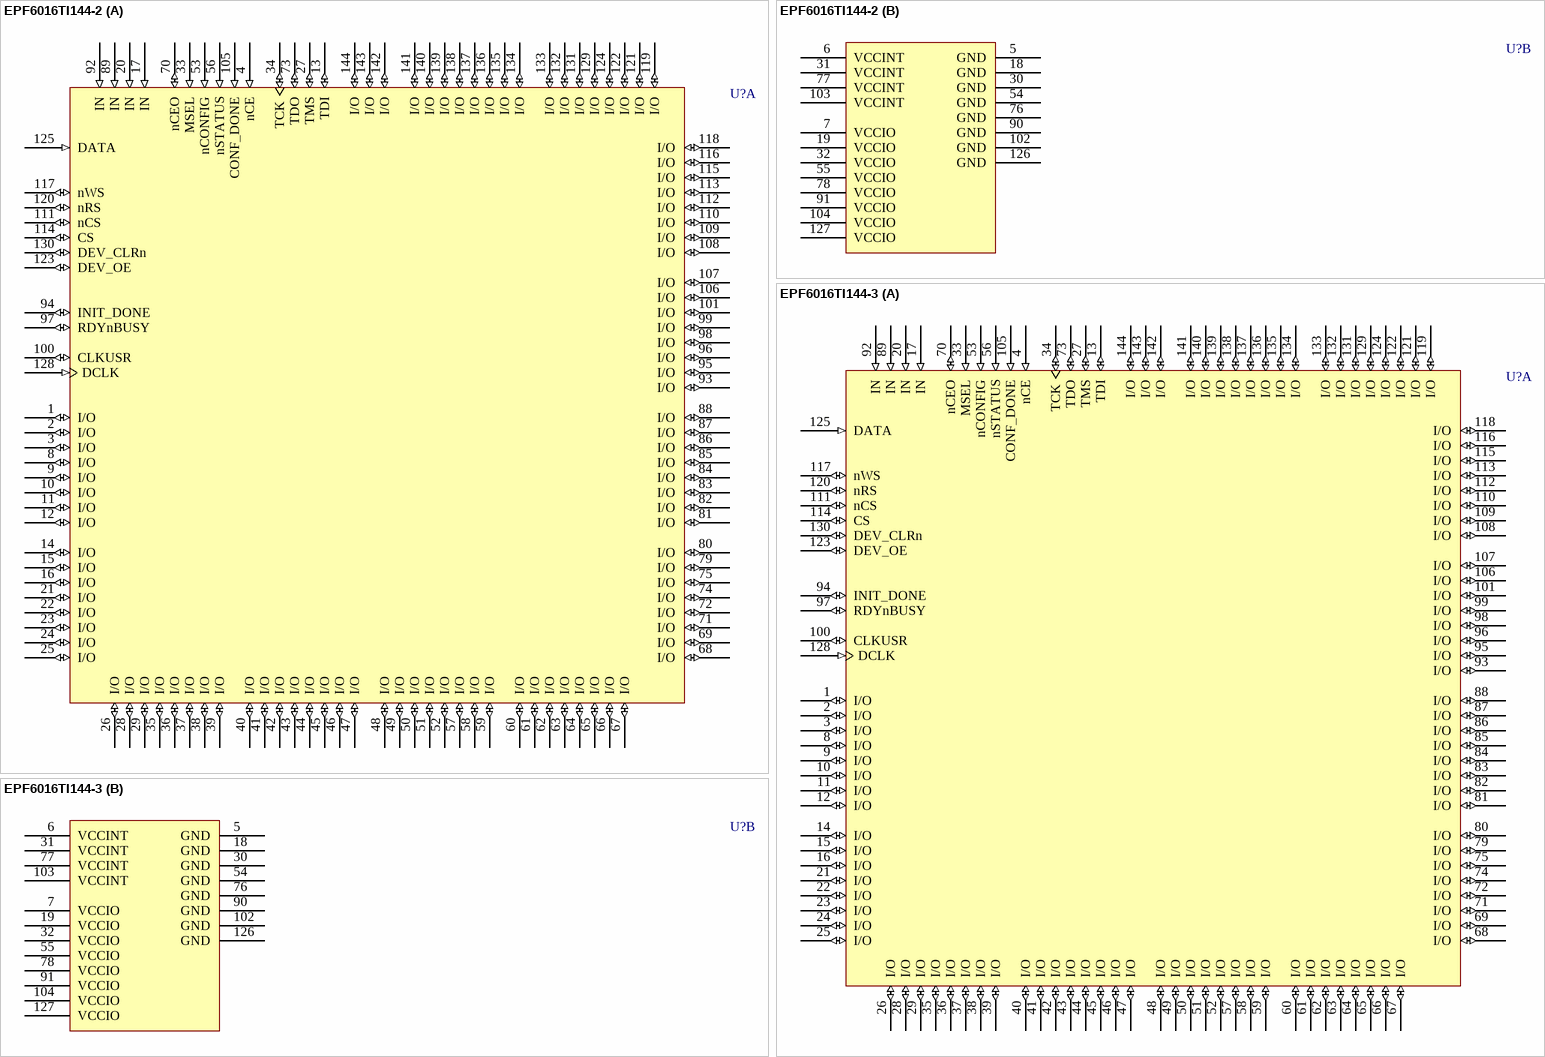
[diagram p25: symbols EPF6016TI144-2 to EPF6016TI144-3]

## EPF6016TI144-2
designator U?
FLEX EPF6016 5.0V PLD, 117 User IO Pins, 144-Pin TQFP, Speed Grade 2, Industrial Grade; Published: 17-Jul-2002; LatestRevisionDate: 13-Apr-2006; LatestRevisionNote: IPC-7351 Footprint Added.; DatasheetVersion: ver4.1, Mar-2001; PackageVersion: ver14.1, Oct-2005; PackageReference: TQFP144; Publisher: Altium Limited; PackageDescription: 144-Pin Plastic Thin Quad Flat Pack (TQFP144); Code_JEDEC: MS-026-BFB; ComponentLink1Description: Manufacturer Link; ComponentLink1URL: http://www.altera.com/products/devices/flex6k/f6k-index.html; ComponentLink2Description: Datasheet; ComponentLink2URL: http://www.altera.com/literature/ds/dsf6k.pdf
footprint TQFP144_N (Thin QFP, 144-Leads, Body 20x20mm, Pitch 0.5mm, IPC Medium Density)
footprint TQFP144_L (Thin QFP, 144-Leads, Body 20x20mm, Pitch 0.5mm, IPC High Density)
footprint TQFP144_M (Thin QFP, 144-Leads, Body 20x20mm, Pitch 0.5mm, IPC Low Density)
3D model EPF6016-TQFP144 (144-Pin Plastic Thin Quad Flat Pack (TQFP144))
part A pins: 1 I/O (io), 2 I/O (io), 3 I/O (io), 4 nCE (in), 8 I/O (io), 9 I/O (io), 10 I/O (io), 11 I/O (io), 12 I/O (io), 13 TDI (io), 14 I/O (io), 15 I/O (io), 16 I/O (io), 17 IN (in), 20 IN (in), 21 I/O (io), 22 I/O (io), 23 I/O (io), 24 I/O (io), 25 I/O (io), 26 I/O (io), 27 TMS (io), 28 I/O (io), 29 I/O (io), 33 MSEL (in), 34 TCK (io), 35 I/O (io), 36 I/O (io), 37 I/O (io), 38 I/O (io), 39 I/O (io), 40 I/O (io), 41 I/O (io), 42 I/O (io), 43 I/O (io), 44 I/O (io), 45 I/O (io), 46 I/O (io), 47 I/O (io), 48 I/O (io), 49 I/O (io), 50 I/O (io), 51 I/O (io), 52 I/O (io), 53 nCONFIG (in), 56 nSTATUS (in), 57 I/O (io), 58 I/O (io), 59 I/O (io), 60 I/O (io), 61 I/O (io), 62 I/O (io), 63 I/O (io), 64 I/O (io), 65 I/O (io), 66 I/O (io), 67 I/O (io), 68 I/O (io), 69 I/O (io), 70 nCEO (io), 71 I/O (io), 72 I/O (io), 73 TDO (io), 74 I/O (io), 75 I/O (io), 79 I/O (io), 80 I/O (io), 81 I/O (io), 82 I/O (io), 83 I/O (io), 84 I/O (io), 85 I/O (io), 86 I/O (io), 87 I/O (io), 88 I/O (io), 89 IN (in), 92 IN (in), 93 I/O (io), 94 INIT_DONE (io), 95 I/O (io), 96 I/O (io), 97 RDYnBUSY (io), 98 I/O (io), 99 I/O (io), 100 CLKUSR (io), 101 I/O (io), 105 CONF_DONE (in), 106 I/O (io), 107 I/O (io), 108 I/O (io), 109 I/O (io), 110 I/O (io), 111 nCS (io), 112 I/O (io), 113 I/O (io), 114 CS (io), 115 I/O (io), 116 I/O (io), 117 nWS (io), 118 I/O (io), 119 I/O (io), 120 nRS (io), 121 I/O (io), 122 I/O (io), 123 DEV_OE (io), 124 I/O (io), 125 DATA (in), 128 DCLK (in), 129 I/O (io), 130 DEV_CLRn (io), 131 I/O (io), 132 I/O (io), 133 I/O (io), 134 I/O (io), 135 I/O (io), 136 I/O (io), 137 I/O (io), 138 I/O (io), 139 I/O (io), 140 I/O (io), 141 I/O (io), 142 I/O (io), 143 I/O (io), 144 I/O (io)
part B pins: 5 GND (power), 6 VCCINT (power), 7 VCCIO (power), 18 GND (power), 19 VCCIO (power), 30 GND (power), 31 VCCINT (power), 32 VCCIO (power), 54 GND (power), 55 VCCIO (power), 76 GND (power), 77 VCCINT (power), 78 VCCIO (power), 90 GND (power), 91 VCCIO (power), 102 GND (power), 103 VCCINT (power), 104 VCCIO (power), 126 GND (power), 127 VCCIO (power)

## EPF6016TI144-3
designator U?
FLEX EPF6016 5.0V PLD, 117 User IO Pins, 144-Pin TQFP, Speed Grade 3, Industrial Grade; Published: 17-Jul-2002; LatestRevisionDate: 13-Apr-2006; LatestRevisionNote: IPC-7351 Footprint Added.; DatasheetVersion: ver4.1, Mar-2001; PackageVersion: ver14.1, Oct-2005; PackageReference: TQFP144; Publisher: Altium Limited; PackageDescription: 144-Pin Plastic Thin Quad Flat Pack (TQFP144); Code_JEDEC: MS-026-BFB; ComponentLink1Description: Manufacturer Link; ComponentLink1URL: http://www.altera.com/products/devices/flex6k/f6k-index.html; ComponentLink2Description: Datasheet; ComponentLink2URL: http://www.altera.com/literature/ds/dsf6k.pdf
footprint TQFP144_N (Thin QFP, 144-Leads, Body 20x20mm, Pitch 0.5mm, IPC Medium Density)
footprint TQFP144_L (Thin QFP, 144-Leads, Body 20x20mm, Pitch 0.5mm, IPC High Density)
footprint TQFP144_M (Thin QFP, 144-Leads, Body 20x20mm, Pitch 0.5mm, IPC Low Density)
3D model EPF6016-TQFP144 (144-Pin Plastic Thin Quad Flat Pack (TQFP144))
part A pins: 1 I/O (io), 2 I/O (io), 3 I/O (io), 4 nCE (in), 8 I/O (io), 9 I/O (io), 10 I/O (io), 11 I/O (io), 12 I/O (io), 13 TDI (io), 14 I/O (io), 15 I/O (io), 16 I/O (io), 17 IN (in), 20 IN (in), 21 I/O (io), 22 I/O (io), 23 I/O (io), 24 I/O (io), 25 I/O (io), 26 I/O (io), 27 TMS (io), 28 I/O (io), 29 I/O (io), 33 MSEL (in), 34 TCK (io), 35 I/O (io), 36 I/O (io), 37 I/O (io), 38 I/O (io), 39 I/O (io), 40 I/O (io), 41 I/O (io), 42 I/O (io), 43 I/O (io), 44 I/O (io), 45 I/O (io), 46 I/O (io), 47 I/O (io), 48 I/O (io), 49 I/O (io), 50 I/O (io), 51 I/O (io), 52 I/O (io), 53 nCONFIG (in), 56 nSTATUS (in), 57 I/O (io), 58 I/O (io), 59 I/O (io), 60 I/O (io), 61 I/O (io), 62 I/O (io), 63 I/O (io), 64 I/O (io), 65 I/O (io), 66 I/O (io), 67 I/O (io), 68 I/O (io), 69 I/O (io), 70 nCEO (io), 71 I/O (io), 72 I/O (io), 73 TDO (io), 74 I/O (io), 75 I/O (io), 79 I/O (io), 80 I/O (io), 81 I/O (io), 82 I/O (io), 83 I/O (io), 84 I/O (io), 85 I/O (io), 86 I/O (io), 87 I/O (io), 88 I/O (io), 89 IN (in), 92 IN (in), 93 I/O (io), 94 INIT_DONE (io), 95 I/O (io), 96 I/O (io), 97 RDYnBUSY (io), 98 I/O (io), 99 I/O (io), 100 CLKUSR (io), 101 I/O (io), 105 CONF_DONE (in), 106 I/O (io), 107 I/O (io), 108 I/O (io), 109 I/O (io), 110 I/O (io), 111 nCS (io), 112 I/O (io), 113 I/O (io), 114 CS (io), 115 I/O (io), 116 I/O (io), 117 nWS (io), 118 I/O (io), 119 I/O (io), 120 nRS (io), 121 I/O (io), 122 I/O (io), 123 DEV_OE (io), 124 I/O (io), 125 DATA (in), 128 DCLK (in), 129 I/O (io), 130 DEV_CLRn (io), 131 I/O (io), 132 I/O (io), 133 I/O (io), 134 I/O (io), 135 I/O (io), 136 I/O (io), 137 I/O (io), 138 I/O (io), 139 I/O (io), 140 I/O (io), 141 I/O (io), 142 I/O (io), 143 I/O (io), 144 I/O (io)
part B pins: 5 GND (power), 6 VCCINT (power), 7 VCCIO (power), 18 GND (power), 19 VCCIO (power), 30 GND (power), 31 VCCINT (power), 32 VCCIO (power), 54 GND (power), 55 VCCIO (power), 76 GND (power), 77 VCCINT (power), 78 VCCIO (power), 90 GND (power), 91 VCCIO (power), 102 GND (power), 103 VCCINT (power), 104 VCCIO (power), 126 GND (power), 127 VCCIO (power)

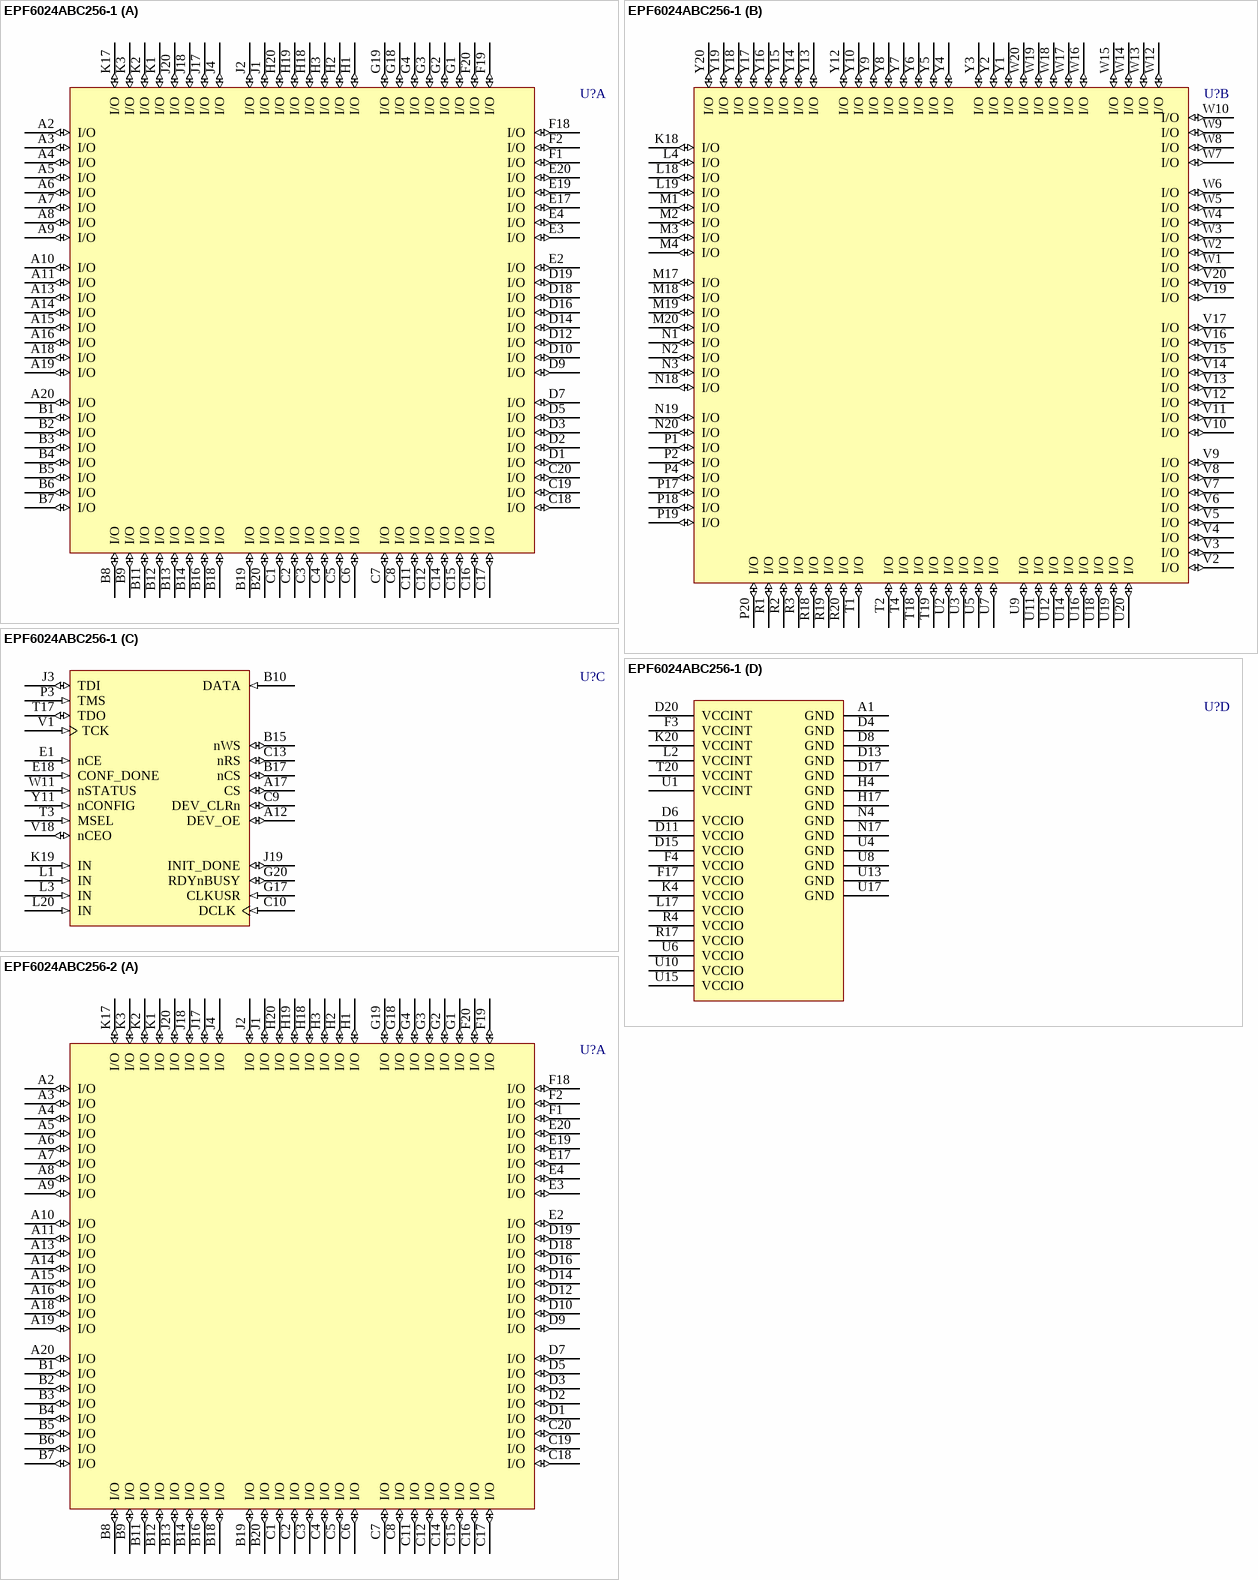
[diagram p26: symbols EPF6024ABC256-1 to EPF6024ABC256-2]

## EPF6024ABC256-1
designator U?
FLEX EPF6024A 3.3V PLD, 218 User IO Pins, 256-Pin BGA, Speed Grade 1, Commercial Grade; Published: 17-Jul-2002; LatestRevisionDate: 13-Apr-2006; LatestRevisionNote: IPC-7351 Footprint Added.; DatasheetVersion: ver4.1, Mar-2001; PackageVersion: ver14.1, Oct-2005; PackageReference: BGA256; Publisher: Altium Limited; PackageDescription: 256-Ball Plastic Ball Grid Array (BGA256) - Option 2; Code_JEDEC: MS-034-BAL-2; ComponentLink1Description: Manufacturer Link; ComponentLink1URL: http://www.altera.com/products/devices/flex6k/f6k-index.html; ComponentLink2Description: Datasheet; ComponentLink2URL: http://www.altera.com/literature/ds/dsf6k.pdf
footprint BGA256 (BGA, 256-Leads, Body 27x27mm, Pitch 1.27mm)
3D model EPF6024A-BGA256 (256-Ball Plastic Ball Grid Array (BGA256) - Option 2)
part A pins: A2 I/O (io), A3 I/O (io), A4 I/O (io), A5 I/O (io), A6 I/O (io), A7 I/O (io), A8 I/O (io), A9 I/O (io), A10 I/O (io), A11 I/O (io), A13 I/O (io), A14 I/O (io), A15 I/O (io), A16 I/O (io), A18 I/O (io), A19 I/O (io), A20 I/O (io), B1 I/O (io), B2 I/O (io), B3 I/O (io), B4 I/O (io), B5 I/O (io), B6 I/O (io), B7 I/O (io), B8 I/O (io), B9 I/O (io), B11 I/O (io), B12 I/O (io), B13 I/O (io), B14 I/O (io), B16 I/O (io), B18 I/O (io), B19 I/O (io), B20 I/O (io), C1 I/O (io), C2 I/O (io), C3 I/O (io), C4 I/O (io), C5 I/O (io), C6 I/O (io), C7 I/O (io), C8 I/O (io), C11 I/O (io), C12 I/O (io), C14 I/O (io), C15 I/O (io), C16 I/O (io), C17 I/O (io), C18 I/O (io), C19 I/O (io), C20 I/O (io), D1 I/O (io), D2 I/O (io), D3 I/O (io), D5 I/O (io), D7 I/O (io), D9 I/O (io), D10 I/O (io), D12 I/O (io), D14 I/O (io), D16 I/O (io), D18 I/O (io), D19 I/O (io), E2 I/O (io), E3 I/O (io), E4 I/O (io), E17 I/O (io), E19 I/O (io), E20 I/O (io), F1 I/O (io), F2 I/O (io), F18 I/O (io), F19 I/O (io), F20 I/O (io), G1 I/O (io), G2 I/O (io), G3 I/O (io), G4 I/O (io), G18 I/O (io), G19 I/O (io), H1 I/O (io), H2 I/O (io), H3 I/O (io), H18 I/O (io), H19 I/O (io), H20 I/O (io), J1 I/O (io), J2 I/O (io), J4 I/O (io), J17 I/O (io), J18 I/O (io), J20 I/O (io), K1 I/O (io), K2 I/O (io), K3 I/O (io), K17 I/O (io)
part B pins: K18 I/O (io), L4 I/O (io), L18 I/O (io), L19 I/O (io), M1 I/O (io), M2 I/O (io), M3 I/O (io), M4 I/O (io), M17 I/O (io), M18 I/O (io), M19 I/O (io), M20 I/O (io), N1 I/O (io), N2 I/O (io), N3 I/O (io), N18 I/O (io), N19 I/O (io), N20 I/O (io), P1 I/O (io), P2 I/O (io), P4 I/O (io), P17 I/O (io), P18 I/O (io), P19 I/O (io), P20 I/O (io), R1 I/O (io), R2 I/O (io), R3 I/O (io), R18 I/O (io), R19 I/O (io), R20 I/O (io), T1 I/O (io), T2 I/O (io), T4 I/O (io), T18 I/O (io), T19 I/O (io), U2 I/O (io), U3 I/O (io), U5 I/O (io), U7 I/O (io), U9 I/O (io), U11 I/O (io), U12 I/O (io), U14 I/O (io), U16 I/O (io), U18 I/O (io), U19 I/O (io), U20 I/O (io), V2 I/O (io), V3 I/O (io), V4 I/O (io), V5 I/O (io), V6 I/O (io), V7 I/O (io), V8 I/O (io), V9 I/O (io), V10 I/O (io), V11 I/O (io), V12 I/O (io), V13 I/O (io), V14 I/O (io), V15 I/O (io), V16 I/O (io), V17 I/O (io), V19 I/O (io), V20 I/O (io), W1 I/O (io), W2 I/O (io), W3 I/O (io), W4 I/O (io), W5 I/O (io), W6 I/O (io), W7 I/O (io), W8 I/O (io), W9 I/O (io), W10 I/O (io), W12 I/O (io), W13 I/O (io), W14 I/O (io), W15 I/O (io), W16 I/O (io), W17 I/O (io), W18 I/O (io), W19 I/O (io), W20 I/O (io), Y1 I/O (io), Y2 I/O (io), Y3 I/O (io), Y4 I/O (io), Y5 I/O (io), Y6 I/O (io), Y7 I/O (io), Y8 I/O (io), Y9 I/O (io), Y10 I/O (io), Y12 I/O (io), Y13 I/O (io), Y14 I/O (io), Y15 I/O (io), Y16 I/O (io), Y17 I/O (io), Y18 I/O (io), Y19 I/O (io), Y20 I/O (io)
part C pins: A12 DEV_OE (io), A17 CS (io), B10 DATA (in), B15 nWS (io), B17 nCS (io), C9 DEV_CLRn (io), C10 DCLK (in), C13 nRS (io), E1 nCE (in), E18 CONF_DONE (in), G17 CLKUSR (in), G20 RDYnBUSY (io), J3 TDI (io), J19 INIT_DONE (io), K19 IN (in), L1 IN (in), L3 IN (in), L20 IN (in), P3 TMS (in), T3 MSEL (in), T17 TDO (io), V1 TCK (in), V18 nCEO (io), W11 nSTATUS (in), Y11 nCONFIG (in)
part D pins: A1 GND (power), D4 GND (power), D6 VCCIO (power), D8 GND (power), D11 VCCIO (power), D13 GND (power), D15 VCCIO (power), D17 GND (power), D20 VCCINT (power), F3 VCCINT (power), F4 VCCIO (power), F17 VCCIO (power), H4 GND (power), H17 GND (power), K4 VCCIO (power), K20 VCCINT (power), L2 VCCINT (power), L17 VCCIO (power), N4 GND (power), N17 GND (power), R4 VCCIO (power), R17 VCCIO (power), T20 VCCINT (power), U1 VCCINT (power), U4 GND (power), U6 VCCIO (power), U8 GND (power), U10 VCCIO (power), U13 GND (power), U15 VCCIO (power), U17 GND (power)

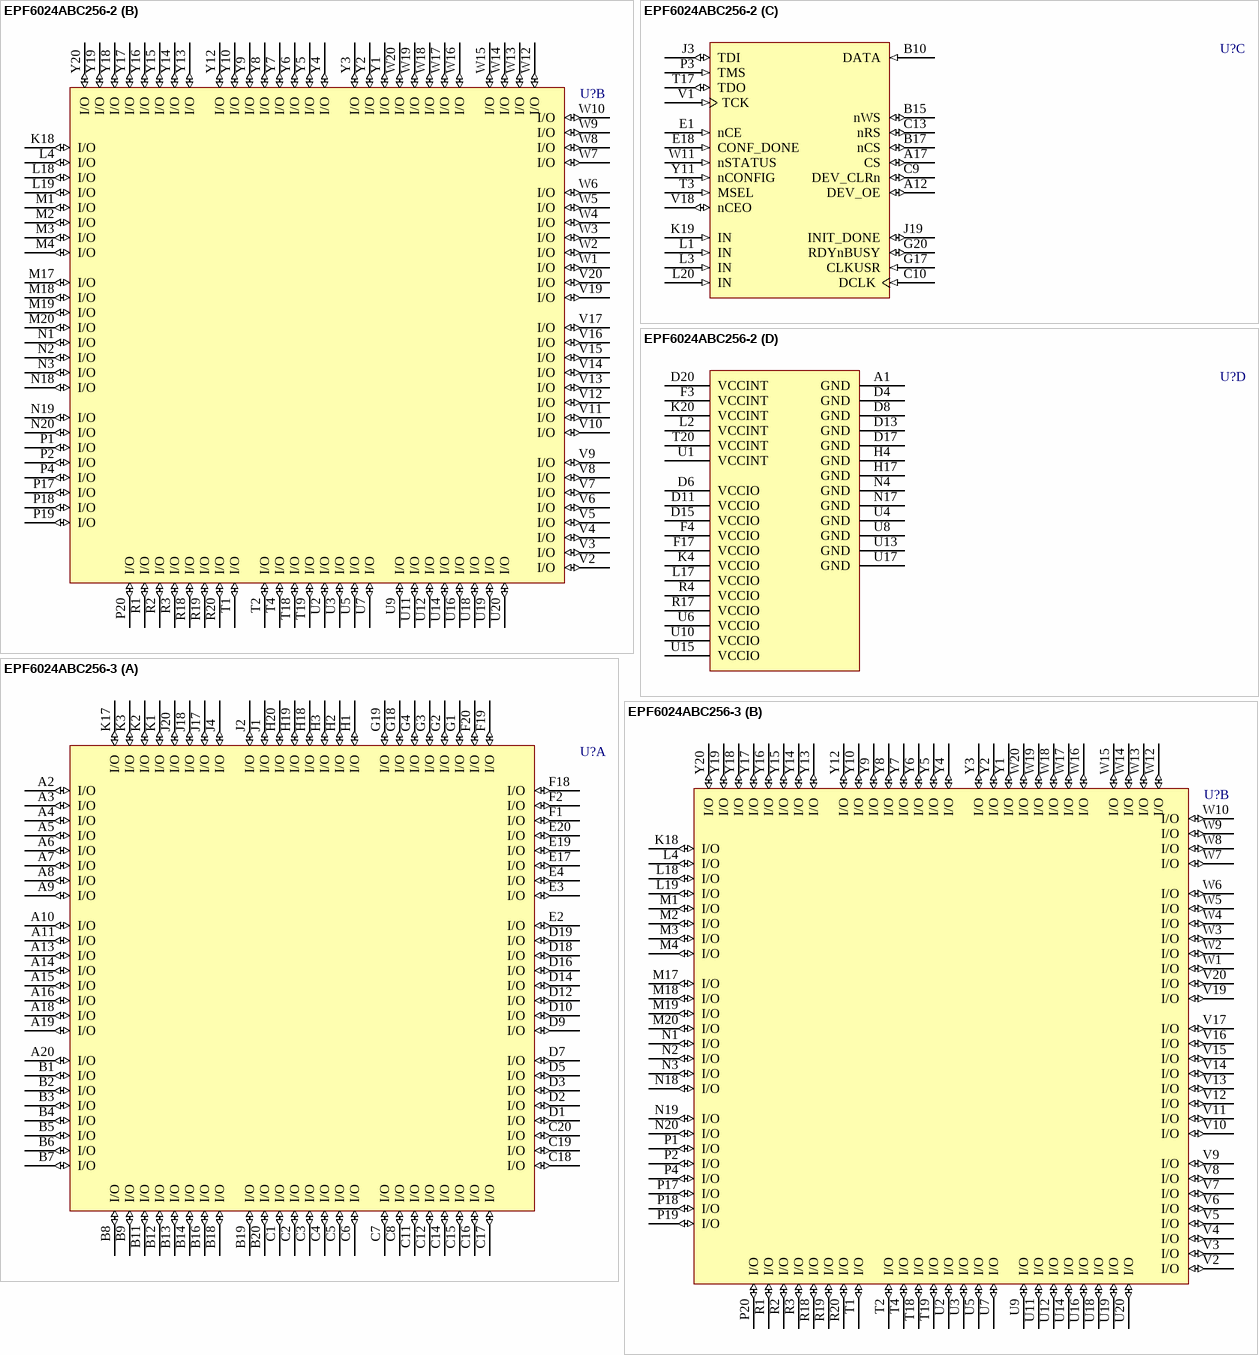
[diagram p27: symbols EPF6024ABC256-2 to EPF6024ABC256-3]

## EPF6024ABC256-2
designator U?
FLEX EPF6024A 3.3V PLD, 218 User IO Pins, 256-Pin BGA, Speed Grade 2, Commercial Grade; Published: 17-Jul-2002; LatestRevisionDate: 13-Apr-2006; LatestRevisionNote: IPC-7351 Footprint Added.; DatasheetVersion: ver4.1, Mar-2001; PackageVersion: ver14.1, Oct-2005; PackageReference: BGA256; Publisher: Altium Limited; PackageDescription: 256-Ball Plastic Ball Grid Array (BGA256) - Option 2; Code_JEDEC: MS-034-BAL-2; ComponentLink1Description: Manufacturer Link; ComponentLink1URL: http://www.altera.com/products/devices/flex6k/f6k-index.html; ComponentLink2Description: Datasheet; ComponentLink2URL: http://www.altera.com/literature/ds/dsf6k.pdf
footprint BGA256 (BGA, 256-Leads, Body 27x27mm, Pitch 1.27mm)
3D model EPF6024A-BGA256 (256-Ball Plastic Ball Grid Array (BGA256) - Option 2)
part A pins: A2 I/O (io), A3 I/O (io), A4 I/O (io), A5 I/O (io), A6 I/O (io), A7 I/O (io), A8 I/O (io), A9 I/O (io), A10 I/O (io), A11 I/O (io), A13 I/O (io), A14 I/O (io), A15 I/O (io), A16 I/O (io), A18 I/O (io), A19 I/O (io), A20 I/O (io), B1 I/O (io), B2 I/O (io), B3 I/O (io), B4 I/O (io), B5 I/O (io), B6 I/O (io), B7 I/O (io), B8 I/O (io), B9 I/O (io), B11 I/O (io), B12 I/O (io), B13 I/O (io), B14 I/O (io), B16 I/O (io), B18 I/O (io), B19 I/O (io), B20 I/O (io), C1 I/O (io), C2 I/O (io), C3 I/O (io), C4 I/O (io), C5 I/O (io), C6 I/O (io), C7 I/O (io), C8 I/O (io), C11 I/O (io), C12 I/O (io), C14 I/O (io), C15 I/O (io), C16 I/O (io), C17 I/O (io), C18 I/O (io), C19 I/O (io), C20 I/O (io), D1 I/O (io), D2 I/O (io), D3 I/O (io), D5 I/O (io), D7 I/O (io), D9 I/O (io), D10 I/O (io), D12 I/O (io), D14 I/O (io), D16 I/O (io), D18 I/O (io), D19 I/O (io), E2 I/O (io), E3 I/O (io), E4 I/O (io), E17 I/O (io), E19 I/O (io), E20 I/O (io), F1 I/O (io), F2 I/O (io), F18 I/O (io), F19 I/O (io), F20 I/O (io), G1 I/O (io), G2 I/O (io), G3 I/O (io), G4 I/O (io), G18 I/O (io), G19 I/O (io), H1 I/O (io), H2 I/O (io), H3 I/O (io), H18 I/O (io), H19 I/O (io), H20 I/O (io), J1 I/O (io), J2 I/O (io), J4 I/O (io), J17 I/O (io), J18 I/O (io), J20 I/O (io), K1 I/O (io), K2 I/O (io), K3 I/O (io), K17 I/O (io)
part B pins: K18 I/O (io), L4 I/O (io), L18 I/O (io), L19 I/O (io), M1 I/O (io), M2 I/O (io), M3 I/O (io), M4 I/O (io), M17 I/O (io), M18 I/O (io), M19 I/O (io), M20 I/O (io), N1 I/O (io), N2 I/O (io), N3 I/O (io), N18 I/O (io), N19 I/O (io), N20 I/O (io), P1 I/O (io), P2 I/O (io), P4 I/O (io), P17 I/O (io), P18 I/O (io), P19 I/O (io), P20 I/O (io), R1 I/O (io), R2 I/O (io), R3 I/O (io), R18 I/O (io), R19 I/O (io), R20 I/O (io), T1 I/O (io), T2 I/O (io), T4 I/O (io), T18 I/O (io), T19 I/O (io), U2 I/O (io), U3 I/O (io), U5 I/O (io), U7 I/O (io), U9 I/O (io), U11 I/O (io), U12 I/O (io), U14 I/O (io), U16 I/O (io), U18 I/O (io), U19 I/O (io), U20 I/O (io), V2 I/O (io), V3 I/O (io), V4 I/O (io), V5 I/O (io), V6 I/O (io), V7 I/O (io), V8 I/O (io), V9 I/O (io), V10 I/O (io), V11 I/O (io), V12 I/O (io), V13 I/O (io), V14 I/O (io), V15 I/O (io), V16 I/O (io), V17 I/O (io), V19 I/O (io), V20 I/O (io), W1 I/O (io), W2 I/O (io), W3 I/O (io), W4 I/O (io), W5 I/O (io), W6 I/O (io), W7 I/O (io), W8 I/O (io), W9 I/O (io), W10 I/O (io), W12 I/O (io), W13 I/O (io), W14 I/O (io), W15 I/O (io), W16 I/O (io), W17 I/O (io), W18 I/O (io), W19 I/O (io), W20 I/O (io), Y1 I/O (io), Y2 I/O (io), Y3 I/O (io), Y4 I/O (io), Y5 I/O (io), Y6 I/O (io), Y7 I/O (io), Y8 I/O (io), Y9 I/O (io), Y10 I/O (io), Y12 I/O (io), Y13 I/O (io), Y14 I/O (io), Y15 I/O (io), Y16 I/O (io), Y17 I/O (io), Y18 I/O (io), Y19 I/O (io), Y20 I/O (io)
part C pins: A12 DEV_OE (io), A17 CS (io), B10 DATA (in), B15 nWS (io), B17 nCS (io), C9 DEV_CLRn (io), C10 DCLK (in), C13 nRS (io), E1 nCE (in), E18 CONF_DONE (in), G17 CLKUSR (in), G20 RDYnBUSY (io), J3 TDI (io), J19 INIT_DONE (io), K19 IN (in), L1 IN (in), L3 IN (in), L20 IN (in), P3 TMS (in), T3 MSEL (in), T17 TDO (io), V1 TCK (in), V18 nCEO (io), W11 nSTATUS (in), Y11 nCONFIG (in)
part D pins: A1 GND (power), D4 GND (power), D6 VCCIO (power), D8 GND (power), D11 VCCIO (power), D13 GND (power), D15 VCCIO (power), D17 GND (power), D20 VCCINT (power), F3 VCCINT (power), F4 VCCIO (power), F17 VCCIO (power), H4 GND (power), H17 GND (power), K4 VCCIO (power), K20 VCCINT (power), L2 VCCINT (power), L17 VCCIO (power), N4 GND (power), N17 GND (power), R4 VCCIO (power), R17 VCCIO (power), T20 VCCINT (power), U1 VCCINT (power), U4 GND (power), U6 VCCIO (power), U8 GND (power), U10 VCCIO (power), U13 GND (power), U15 VCCIO (power), U17 GND (power)

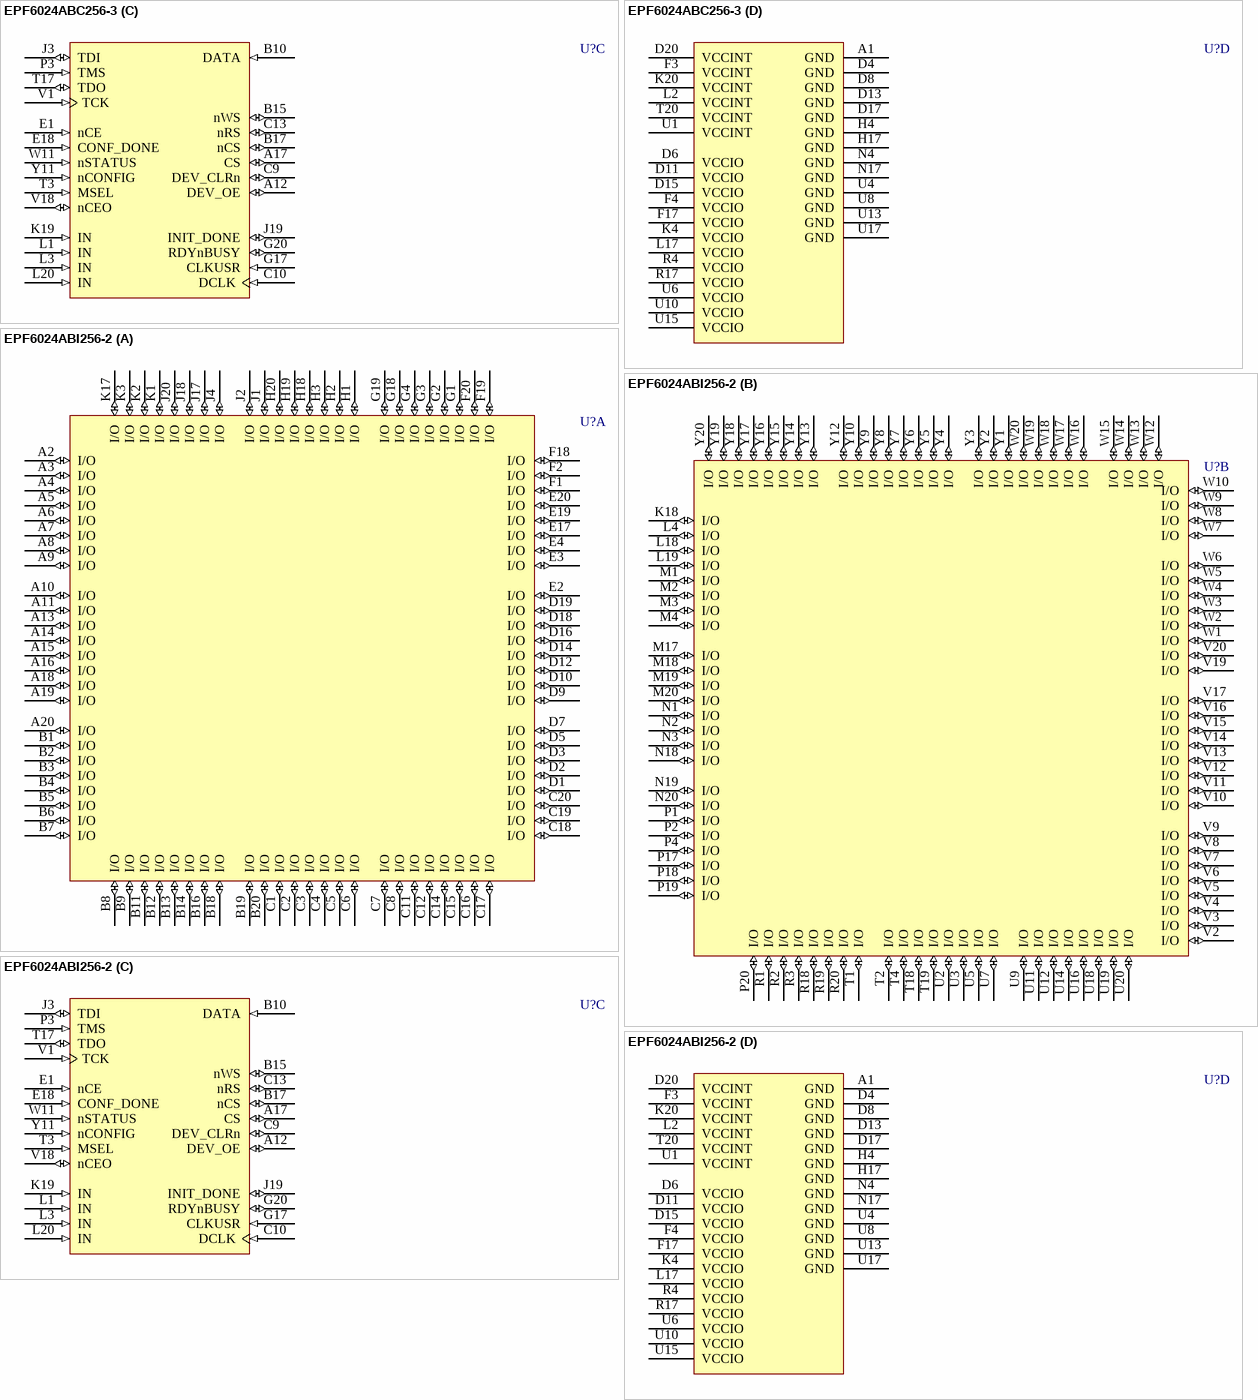
[diagram p28: symbols EPF6024ABC256-3 to EPF6024ABI256-2]

## EPF6024ABC256-3
designator U?
FLEX EPF6024A 3.3V PLD, 218 User IO Pins, 256-Pin BGA, Speed Grade 3, Commercial Grade; Published: 17-Jul-2002; LatestRevisionDate: 13-Apr-2006; LatestRevisionNote: IPC-7351 Footprint Added.; DatasheetVersion: ver4.1, Mar-2001; PackageVersion: ver14.1, Oct-2005; PackageReference: BGA256; Publisher: Altium Limited; PackageDescription: 256-Ball Plastic Ball Grid Array (BGA256) - Option 2; Code_JEDEC: MS-034-BAL-2; ComponentLink1Description: Manufacturer Link; ComponentLink1URL: http://www.altera.com/products/devices/flex6k/f6k-index.html; ComponentLink2Description: Datasheet; ComponentLink2URL: http://www.altera.com/literature/ds/dsf6k.pdf
footprint BGA256 (BGA, 256-Leads, Body 27x27mm, Pitch 1.27mm)
3D model EPF6024A-BGA256 (256-Ball Plastic Ball Grid Array (BGA256) - Option 2)
part A pins: A2 I/O (io), A3 I/O (io), A4 I/O (io), A5 I/O (io), A6 I/O (io), A7 I/O (io), A8 I/O (io), A9 I/O (io), A10 I/O (io), A11 I/O (io), A13 I/O (io), A14 I/O (io), A15 I/O (io), A16 I/O (io), A18 I/O (io), A19 I/O (io), A20 I/O (io), B1 I/O (io), B2 I/O (io), B3 I/O (io), B4 I/O (io), B5 I/O (io), B6 I/O (io), B7 I/O (io), B8 I/O (io), B9 I/O (io), B11 I/O (io), B12 I/O (io), B13 I/O (io), B14 I/O (io), B16 I/O (io), B18 I/O (io), B19 I/O (io), B20 I/O (io), C1 I/O (io), C2 I/O (io), C3 I/O (io), C4 I/O (io), C5 I/O (io), C6 I/O (io), C7 I/O (io), C8 I/O (io), C11 I/O (io), C12 I/O (io), C14 I/O (io), C15 I/O (io), C16 I/O (io), C17 I/O (io), C18 I/O (io), C19 I/O (io), C20 I/O (io), D1 I/O (io), D2 I/O (io), D3 I/O (io), D5 I/O (io), D7 I/O (io), D9 I/O (io), D10 I/O (io), D12 I/O (io), D14 I/O (io), D16 I/O (io), D18 I/O (io), D19 I/O (io), E2 I/O (io), E3 I/O (io), E4 I/O (io), E17 I/O (io), E19 I/O (io), E20 I/O (io), F1 I/O (io), F2 I/O (io), F18 I/O (io), F19 I/O (io), F20 I/O (io), G1 I/O (io), G2 I/O (io), G3 I/O (io), G4 I/O (io), G18 I/O (io), G19 I/O (io), H1 I/O (io), H2 I/O (io), H3 I/O (io), H18 I/O (io), H19 I/O (io), H20 I/O (io), J1 I/O (io), J2 I/O (io), J4 I/O (io), J17 I/O (io), J18 I/O (io), J20 I/O (io), K1 I/O (io), K2 I/O (io), K3 I/O (io), K17 I/O (io)
part B pins: K18 I/O (io), L4 I/O (io), L18 I/O (io), L19 I/O (io), M1 I/O (io), M2 I/O (io), M3 I/O (io), M4 I/O (io), M17 I/O (io), M18 I/O (io), M19 I/O (io), M20 I/O (io), N1 I/O (io), N2 I/O (io), N3 I/O (io), N18 I/O (io), N19 I/O (io), N20 I/O (io), P1 I/O (io), P2 I/O (io), P4 I/O (io), P17 I/O (io), P18 I/O (io), P19 I/O (io), P20 I/O (io), R1 I/O (io), R2 I/O (io), R3 I/O (io), R18 I/O (io), R19 I/O (io), R20 I/O (io), T1 I/O (io), T2 I/O (io), T4 I/O (io), T18 I/O (io), T19 I/O (io), U2 I/O (io), U3 I/O (io), U5 I/O (io), U7 I/O (io), U9 I/O (io), U11 I/O (io), U12 I/O (io), U14 I/O (io), U16 I/O (io), U18 I/O (io), U19 I/O (io), U20 I/O (io), V2 I/O (io), V3 I/O (io), V4 I/O (io), V5 I/O (io), V6 I/O (io), V7 I/O (io), V8 I/O (io), V9 I/O (io), V10 I/O (io), V11 I/O (io), V12 I/O (io), V13 I/O (io), V14 I/O (io), V15 I/O (io), V16 I/O (io), V17 I/O (io), V19 I/O (io), V20 I/O (io), W1 I/O (io), W2 I/O (io), W3 I/O (io), W4 I/O (io), W5 I/O (io), W6 I/O (io), W7 I/O (io), W8 I/O (io), W9 I/O (io), W10 I/O (io), W12 I/O (io), W13 I/O (io), W14 I/O (io), W15 I/O (io), W16 I/O (io), W17 I/O (io), W18 I/O (io), W19 I/O (io), W20 I/O (io), Y1 I/O (io), Y2 I/O (io), Y3 I/O (io), Y4 I/O (io), Y5 I/O (io), Y6 I/O (io), Y7 I/O (io), Y8 I/O (io), Y9 I/O (io), Y10 I/O (io), Y12 I/O (io), Y13 I/O (io), Y14 I/O (io), Y15 I/O (io), Y16 I/O (io), Y17 I/O (io), Y18 I/O (io), Y19 I/O (io), Y20 I/O (io)
part C pins: A12 DEV_OE (io), A17 CS (io), B10 DATA (in), B15 nWS (io), B17 nCS (io), C9 DEV_CLRn (io), C10 DCLK (in), C13 nRS (io), E1 nCE (in), E18 CONF_DONE (in), G17 CLKUSR (in), G20 RDYnBUSY (io), J3 TDI (io), J19 INIT_DONE (io), K19 IN (in), L1 IN (in), L3 IN (in), L20 IN (in), P3 TMS (in), T3 MSEL (in), T17 TDO (io), V1 TCK (in), V18 nCEO (io), W11 nSTATUS (in), Y11 nCONFIG (in)
part D pins: A1 GND (power), D4 GND (power), D6 VCCIO (power), D8 GND (power), D11 VCCIO (power), D13 GND (power), D15 VCCIO (power), D17 GND (power), D20 VCCINT (power), F3 VCCINT (power), F4 VCCIO (power), F17 VCCIO (power), H4 GND (power), H17 GND (power), K4 VCCIO (power), K20 VCCINT (power), L2 VCCINT (power), L17 VCCIO (power), N4 GND (power), N17 GND (power), R4 VCCIO (power), R17 VCCIO (power), T20 VCCINT (power), U1 VCCINT (power), U4 GND (power), U6 VCCIO (power), U8 GND (power), U10 VCCIO (power), U13 GND (power), U15 VCCIO (power), U17 GND (power)